# Altium integrated library microbuilder.IntLib: 530 symbols (part 2 of 7)
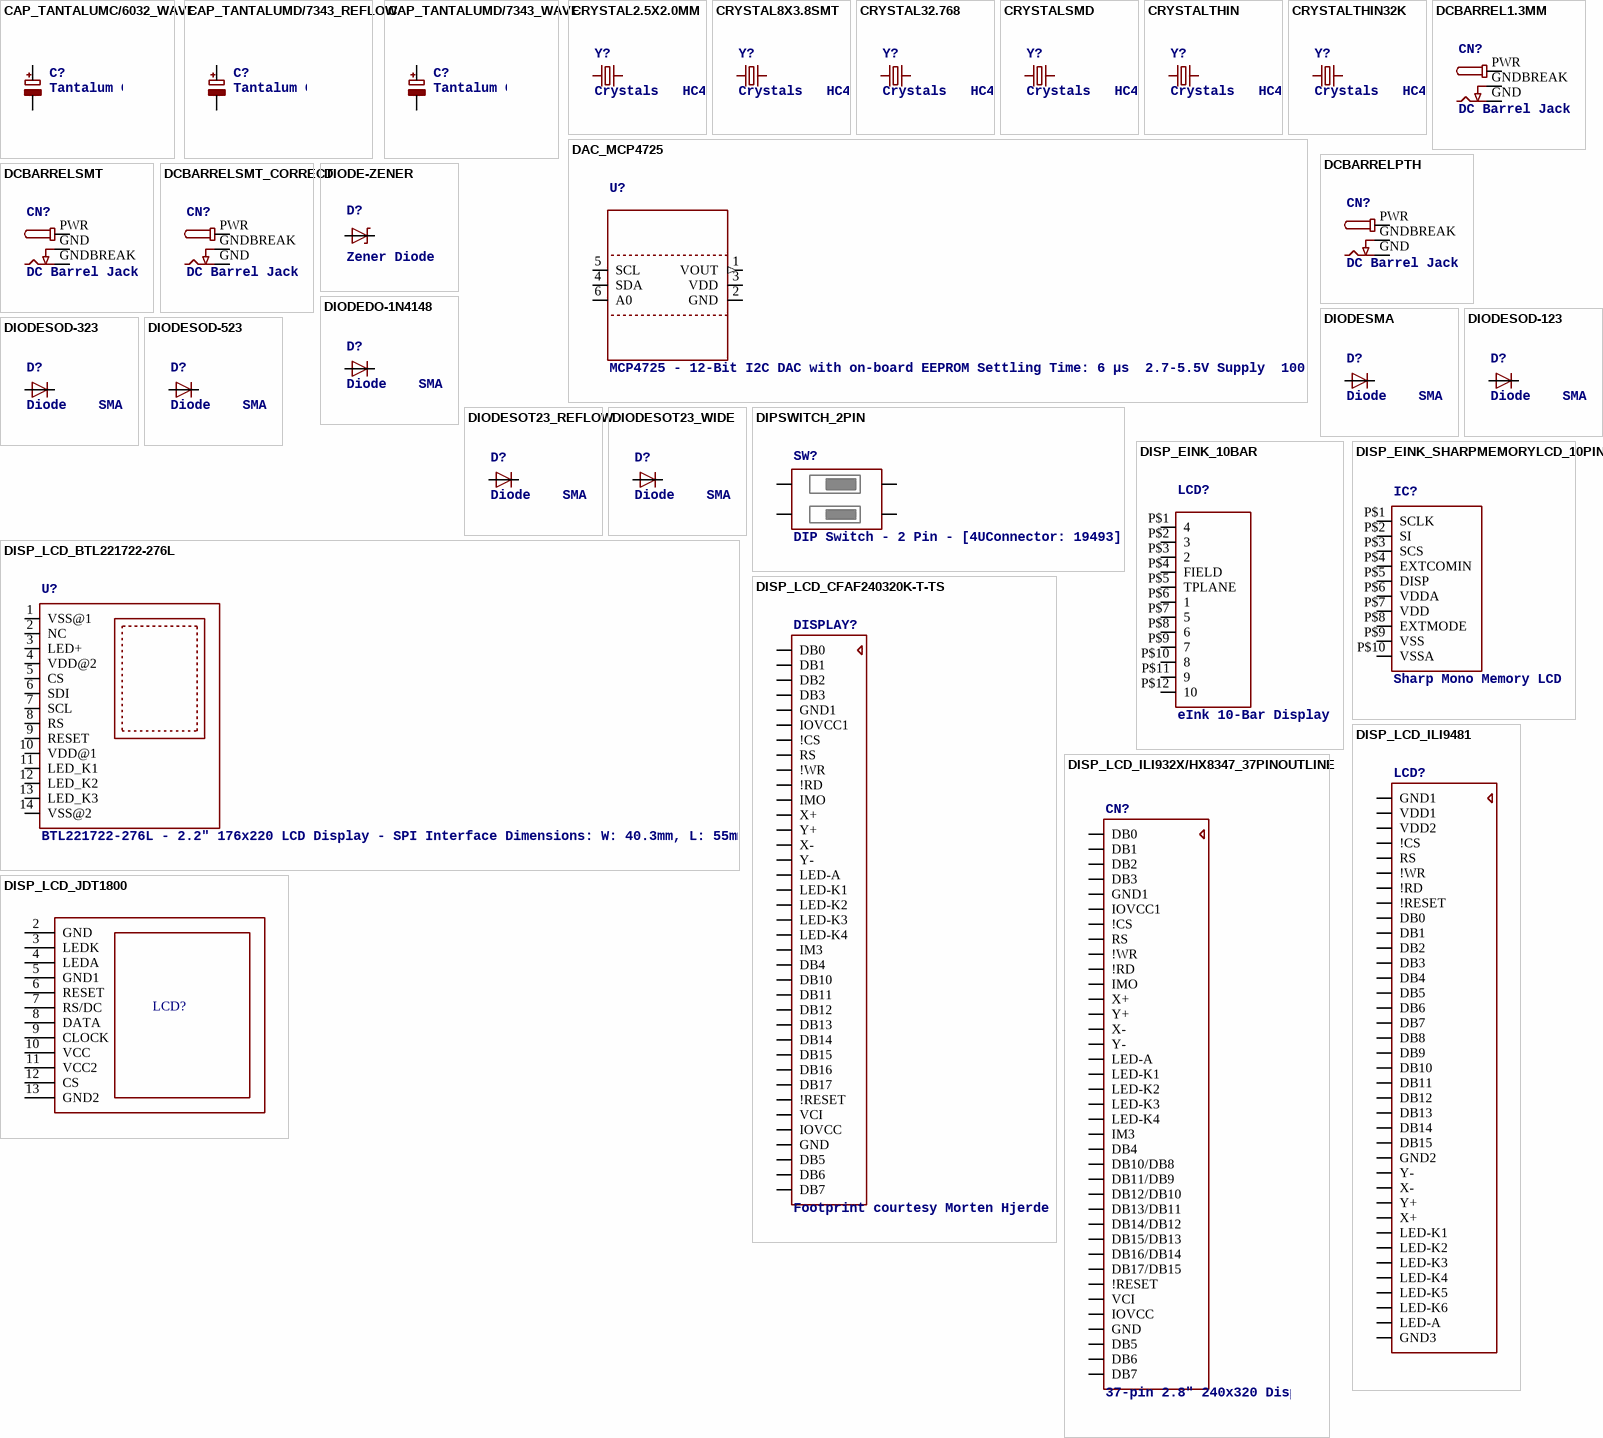
[diagram p53: symbols CAP_TANTALUMC/6032_WAVE to DISP_LCD_JDT1800]

## CAP_TANTALUMC/6032_WAVE
designator C?, comment Tantalum Capacitors   Wave footprints have larger pads and are meant to be used for hand soldering. Reflow footprints are optimised for solder paste and a reflow oven.EIA3216-18/A-[R/W] - Size A / 3216-18 / 1206 footprint  4.7µF 25V 10% Tantalum Capacitor  10µF 16V 10% Tantalum Capacitor [Digikey: 495-2236-2-ND]    EIA3528-21/B-[R/W] - Size B / 3528-21  47µF 10V 10% Tantalum Capactior [Digikey: 495-2216-1-ND]    EIA6032-28/C-[R/W] - Size C / 6032-28  10µF 35V 20% Tantalum Capacitor [Digikey: 495-2285-1-ND]  100µF 16V 10% Tantalum Capactior [Digikey: 399-5214-1-ND]
footprint EIA6032-28/C-W
pins: +, -

## CAP_TANTALUMD/7343_REFLOW
designator C?, comment Tantalum Capacitors   Wave footprints have larger pads and are meant to be used for hand soldering. Reflow footprints are optimised for solder paste and a reflow oven.EIA3216-18/A-[R/W] - Size A / 3216-18 / 1206 footprint  4.7µF 25V 10% Tantalum Capacitor  10µF 16V 10% Tantalum Capacitor [Digikey: 495-2236-2-ND]    EIA3528-21/B-[R/W] - Size B / 3528-21  47µF 10V 10% Tantalum Capactior [Digikey: 495-2216-1-ND]    EIA6032-28/C-[R/W] - Size C / 6032-28  10µF 35V 20% Tantalum Capacitor [Digikey: 495-2285-1-ND]  100µF 16V 10% Tantalum Capactior [Digikey: 399-5214-1-ND]
footprint EIA7343-31/D-R
pins: +, -

## CAP_TANTALUMD/7343_WAVE
designator C?, comment Tantalum Capacitors   Wave footprints have larger pads and are meant to be used for hand soldering. Reflow footprints are optimised for solder paste and a reflow oven.EIA3216-18/A-[R/W] - Size A / 3216-18 / 1206 footprint  4.7µF 25V 10% Tantalum Capacitor  10µF 16V 10% Tantalum Capacitor [Digikey: 495-2236-2-ND]    EIA3528-21/B-[R/W] - Size B / 3528-21  47µF 10V 10% Tantalum Capactior [Digikey: 495-2216-1-ND]    EIA6032-28/C-[R/W] - Size C / 6032-28  10µF 35V 20% Tantalum Capacitor [Digikey: 495-2285-1-ND]  100µF 16V 10% Tantalum Capactior [Digikey: 399-5214-1-ND]
footprint EIA7343-31/D-W
pins: +, -

## CRYSTAL2.5X2.0MM
designator Y?, comment Crystals   HC49UP - Surface Mount Crystal  4.0MHz 18pF +/-30ppm Surface Mount Crystal [Digikey: 535-9857-1-ND]  12.0 MHz Surface Mount Crystal [Digikey: 535-9869-6-ND]  25.0 MHz Surface Mount Crystal [Digikey: 535-9078-1-ND]       2.5 x 2.0mm - MEMs SMT Crystal  16.0 MHz 10pF 20ppm 2.5 x 2.0mm Crystal [Digikey -40-85°C: 535-10923-1-ND]       3.2 x 2.5mm - MEMs SMT Crystal  12.0 MHz 8pF 15ppm 3.2 x 2.5mm Crystal [Digikey: -10-70°C: 644-1047-1-ND -40-125°C: 644-1128-1-ND]  16.0 MHz 8pF 15ppm 3.2 x 2.5mm Crystal [Digikey: -10-70°C: 644-1049-1-ND -40-125°C: 644-1129-2-ND]  16.0 MHz 10pF 10ppm 3.2 x 2.5mm Crystal [Digikey: 644-1100-1-ND]  27.12 MHz 18pF 30ppm 3.2 x 2.5mm Crystal [Digikey: 887-1424-1-ND]  27.12MHz 10pF 10ppm 3.2 x 2.5mm Crystal [Digikey: 887-1329-1-ND]       4.9 x 1.8mm - MEMs SMT Crystal  32.768 KHz 12.5pF 20ppm 4.9 x 1.8mm Crystal [Digikey: SE2415CT-ND]       8.0 x 3.8mm - Surface Mount Crystal  32.768kHz 12.5pF 20ppm -40°C-85°C [Digikey: 535-9166-2-ND]       Cylinder 32.768KHz Cylinder Crystal (2x6mm body) [Ex. Digikey: 300-8341-2-ND]
footprint CRYSTAL_2.5X2
pins: 1, 3 2

## CRYSTAL8X3.8SMT
designator Y?, comment Crystals   HC49UP - Surface Mount Crystal  4.0MHz 18pF +/-30ppm Surface Mount Crystal [Digikey: 535-9857-1-ND]  12.0 MHz Surface Mount Crystal [Digikey: 535-9869-6-ND]  25.0 MHz Surface Mount Crystal [Digikey: 535-9078-1-ND]       2.5 x 2.0mm - MEMs SMT Crystal  16.0 MHz 10pF 20ppm 2.5 x 2.0mm Crystal [Digikey -40-85°C: 535-10923-1-ND]       3.2 x 2.5mm - MEMs SMT Crystal  12.0 MHz 8pF 15ppm 3.2 x 2.5mm Crystal [Digikey: -10-70°C: 644-1047-1-ND -40-125°C: 644-1128-1-ND]  16.0 MHz 8pF 15ppm 3.2 x 2.5mm Crystal [Digikey: -10-70°C: 644-1049-1-ND -40-125°C: 644-1129-2-ND]  16.0 MHz 10pF 10ppm 3.2 x 2.5mm Crystal [Digikey: 644-1100-1-ND]  27.12 MHz 18pF 30ppm 3.2 x 2.5mm Crystal [Digikey: 887-1424-1-ND]  27.12MHz 10pF 10ppm 3.2 x 2.5mm Crystal [Digikey: 887-1329-1-ND]       4.9 x 1.8mm - MEMs SMT Crystal  32.768 KHz 12.5pF 20ppm 4.9 x 1.8mm Crystal [Digikey: SE2415CT-ND]       8.0 x 3.8mm - Surface Mount Crystal  32.768kHz 12.5pF 20ppm -40°C-85°C [Digikey: 535-9166-2-ND]       Cylinder 32.768KHz Cylinder Crystal (2x6mm body) [Ex. Digikey: 300-8341-2-ND]
footprint CRYSTAL_8X3.8
pins: P$1 1, P$4 2

## CRYSTAL32.768
designator Y?, comment Crystals   HC49UP - Surface Mount Crystal  4.0MHz 18pF +/-30ppm Surface Mount Crystal [Digikey: 535-9857-1-ND]  12.0 MHz Surface Mount Crystal [Digikey: 535-9869-6-ND]  25.0 MHz Surface Mount Crystal [Digikey: 535-9078-1-ND]       2.5 x 2.0mm - MEMs SMT Crystal  16.0 MHz 10pF 20ppm 2.5 x 2.0mm Crystal [Digikey -40-85°C: 535-10923-1-ND]       3.2 x 2.5mm - MEMs SMT Crystal  12.0 MHz 8pF 15ppm 3.2 x 2.5mm Crystal [Digikey: -10-70°C: 644-1047-1-ND -40-125°C: 644-1128-1-ND]  16.0 MHz 8pF 15ppm 3.2 x 2.5mm Crystal [Digikey: -10-70°C: 644-1049-1-ND -40-125°C: 644-1129-2-ND]  16.0 MHz 10pF 10ppm 3.2 x 2.5mm Crystal [Digikey: 644-1100-1-ND]  27.12 MHz 18pF 30ppm 3.2 x 2.5mm Crystal [Digikey: 887-1424-1-ND]  27.12MHz 10pF 10ppm 3.2 x 2.5mm Crystal [Digikey: 887-1329-1-ND]       4.9 x 1.8mm - MEMs SMT Crystal  32.768 KHz 12.5pF 20ppm 4.9 x 1.8mm Crystal [Digikey: SE2415CT-ND]       8.0 x 3.8mm - Surface Mount Crystal  32.768kHz 12.5pF 20ppm -40°C-85°C [Digikey: 535-9166-2-ND]       Cylinder 32.768KHz Cylinder Crystal (2x6mm body) [Ex. Digikey: 300-8341-2-ND]
footprint CRYSTAL_CYL_2X6MM_SMT
pins: 1, 2

## CRYSTALSMD
designator Y?, comment Crystals   HC49UP - Surface Mount Crystal  4.0MHz 18pF +/-30ppm Surface Mount Crystal [Digikey: 535-9857-1-ND]  12.0 MHz Surface Mount Crystal [Digikey: 535-9869-6-ND]  25.0 MHz Surface Mount Crystal [Digikey: 535-9078-1-ND]       2.5 x 2.0mm - MEMs SMT Crystal  16.0 MHz 10pF 20ppm 2.5 x 2.0mm Crystal [Digikey -40-85°C: 535-10923-1-ND]       3.2 x 2.5mm - MEMs SMT Crystal  12.0 MHz 8pF 15ppm 3.2 x 2.5mm Crystal [Digikey: -10-70°C: 644-1047-1-ND -40-125°C: 644-1128-1-ND]  16.0 MHz 8pF 15ppm 3.2 x 2.5mm Crystal [Digikey: -10-70°C: 644-1049-1-ND -40-125°C: 644-1129-2-ND]  16.0 MHz 10pF 10ppm 3.2 x 2.5mm Crystal [Digikey: 644-1100-1-ND]  27.12 MHz 18pF 30ppm 3.2 x 2.5mm Crystal [Digikey: 887-1424-1-ND]  27.12MHz 10pF 10ppm 3.2 x 2.5mm Crystal [Digikey: 887-1329-1-ND]       4.9 x 1.8mm - MEMs SMT Crystal  32.768 KHz 12.5pF 20ppm 4.9 x 1.8mm Crystal [Digikey: SE2415CT-ND]       8.0 x 3.8mm - Surface Mount Crystal  32.768kHz 12.5pF 20ppm -40°C-85°C [Digikey: 535-9166-2-ND]       Cylinder 32.768KHz Cylinder Crystal (2x6mm body) [Ex. Digikey: 300-8341-2-ND]
footprint HC49UP
pins: 1, 2

## CRYSTALTHIN
designator Y?, comment Crystals   HC49UP - Surface Mount Crystal  4.0MHz 18pF +/-30ppm Surface Mount Crystal [Digikey: 535-9857-1-ND]  12.0 MHz Surface Mount Crystal [Digikey: 535-9869-6-ND]  25.0 MHz Surface Mount Crystal [Digikey: 535-9078-1-ND]       2.5 x 2.0mm - MEMs SMT Crystal  16.0 MHz 10pF 20ppm 2.5 x 2.0mm Crystal [Digikey -40-85°C: 535-10923-1-ND]       3.2 x 2.5mm - MEMs SMT Crystal  12.0 MHz 8pF 15ppm 3.2 x 2.5mm Crystal [Digikey: -10-70°C: 644-1047-1-ND -40-125°C: 644-1128-1-ND]  16.0 MHz 8pF 15ppm 3.2 x 2.5mm Crystal [Digikey: -10-70°C: 644-1049-1-ND -40-125°C: 644-1129-2-ND]  16.0 MHz 10pF 10ppm 3.2 x 2.5mm Crystal [Digikey: 644-1100-1-ND]  27.12 MHz 18pF 30ppm 3.2 x 2.5mm Crystal [Digikey: 887-1424-1-ND]  27.12MHz 10pF 10ppm 3.2 x 2.5mm Crystal [Digikey: 887-1329-1-ND]       4.9 x 1.8mm - MEMs SMT Crystal  32.768 KHz 12.5pF 20ppm 4.9 x 1.8mm Crystal [Digikey: SE2415CT-ND]       8.0 x 3.8mm - Surface Mount Crystal  32.768kHz 12.5pF 20ppm -40°C-85°C [Digikey: 535-9166-2-ND]       Cylinder 32.768KHz Cylinder Crystal (2x6mm body) [Ex. Digikey: 300-8341-2-ND]
footprint CRYSTAL_3.2X2.5
pins: 1, 2

## CRYSTALTHIN32K
designator Y?, comment Crystals   HC49UP - Surface Mount Crystal  4.0MHz 18pF +/-30ppm Surface Mount Crystal [Digikey: 535-9857-1-ND]  12.0 MHz Surface Mount Crystal [Digikey: 535-9869-6-ND]  25.0 MHz Surface Mount Crystal [Digikey: 535-9078-1-ND]       2.5 x 2.0mm - MEMs SMT Crystal  16.0 MHz 10pF 20ppm 2.5 x 2.0mm Crystal [Digikey -40-85°C: 535-10923-1-ND]       3.2 x 2.5mm - MEMs SMT Crystal  12.0 MHz 8pF 15ppm 3.2 x 2.5mm Crystal [Digikey: -10-70°C: 644-1047-1-ND -40-125°C: 644-1128-1-ND]  16.0 MHz 8pF 15ppm 3.2 x 2.5mm Crystal [Digikey: -10-70°C: 644-1049-1-ND -40-125°C: 644-1129-2-ND]  16.0 MHz 10pF 10ppm 3.2 x 2.5mm Crystal [Digikey: 644-1100-1-ND]  27.12 MHz 18pF 30ppm 3.2 x 2.5mm Crystal [Digikey: 887-1424-1-ND]  27.12MHz 10pF 10ppm 3.2 x 2.5mm Crystal [Digikey: 887-1329-1-ND]       4.9 x 1.8mm - MEMs SMT Crystal  32.768 KHz 12.5pF 20ppm 4.9 x 1.8mm Crystal [Digikey: SE2415CT-ND]       8.0 x 3.8mm - Surface Mount Crystal  32.768kHz 12.5pF 20ppm -40°C-85°C [Digikey: 535-9166-2-ND]       Cylinder 32.768KHz Cylinder Crystal (2x6mm body) [Ex. Digikey: 300-8341-2-ND]
footprint CRYSTAL_4.9X1.8
pins: 1, 2

## DAC_MCP4725
designator U?, comment MCP4725 - 12-Bit I2C DAC with on-board EEPROM Settling Time: 6 µs  2.7-5.5V Supply  100kHz, 400kHz, 3.4 Mbps I²C       EEPROM can be used to store a specific output voltage which will be set coming out of reset   I²C Address: 1100 A2 A1 A0   A0 is set via the A0 pin, A2 and A1 are hard-wired on the chip depending on the model chosen:      Part Number	A2 A1	Code	     MCP4725A0T-E/CH	  0 0	  AJNN	     MCP4725A1T-E/CH	  0 1	  APNN	     MCP4725A2T-E/CH	  1 0	  AQNN	     MCP4725A3T-E/CH	  1 1	  ARNN
footprint SOT23-6
pins: 1 VOUT (out), 2 GND (power), 3 VDD (power), 4 SDA, 5 SCL, 6 A0

## DCBARREL1.3MM
designator CN?, comment DC Barrel Jack   DCJACK_1.3MM_PTH - Through Hole 1.3mm Jack (4UConnector: 05536)   DCJACK_2MM_PTH - Through Hole 2.0/2.1 Jack (4UConnector: 05537)   DCJACK_2MM_SMT - SMT 2.0/2.1mm Jack(4UConnector: 03267)
footprint DCJACK_1.3MM_PTH
pins: GND (power), GNDBREAK (power), PWR (power)

## DCBARRELPTH
designator CN?, comment DC Barrel Jack   DCJACK_1.3MM_PTH - Through Hole 1.3mm Jack (4UConnector: 05536)   DCJACK_2MM_PTH - Through Hole 2.0/2.1 Jack (4UConnector: 05537)   DCJACK_2MM_SMT - SMT 2.0/2.1mm Jack(4UConnector: 03267)
footprint DCJACK_2MM_PTH
pins: GND (power), GNDBREAK (power), PWR (power)

## DCBARRELSMT
designator CN?, comment DC Barrel Jack   DCJACK_1.3MM_PTH - Through Hole 1.3mm Jack (4UConnector: 05536)   DCJACK_2MM_PTH - Through Hole 2.0/2.1 Jack (4UConnector: 05537)   DCJACK_2MM_SMT - SMT 2.0/2.1mm Jack(4UConnector: 03267)
footprint DCJACK_2MM_SMT
pins: GND GNDBREAK (power), GNDBREAK GND (power), PWR (power)

## DCBARRELSMT_CORRECT
designator CN?, comment DC Barrel Jack   DCJACK_1.3MM_PTH - Through Hole 1.3mm Jack (4UConnector: 05536)   DCJACK_2MM_PTH - Through Hole 2.0/2.1 Jack (4UConnector: 05537)   DCJACK_2MM_SMT - SMT 2.0/2.1mm Jack(4UConnector: 03267)
footprint DCJACK_2MM_SMT
pins: GND (power), GNDBREAK (power), PWR (power)

## DIODE-ZENER
designator D?, comment Zener Diode   SMA: 30V 1W Zener Diode, 1.2Vf - Digikey: SMAZ30-FDICT-ND
footprint SMADIODE
pins: A, C

## DIODEDO-1N4148
designator D?, comment Diode    SMA      Model	  Volts	  Amps	  Type	  Vf	  Vr	  Digikey #	  Notes	     SSA34-E3	  40V	  3A	  Schottky	  480mV @ 3A	  200uA @ 40V	  SSA34-E3/61TGITR-ND	  	     CDBA120-G	  20V	  1A	  Schottky	  500mV @ 1A	  500uA @ 20V	  641-1014-6-ND	  REEL	     MBRA210	  10V	  2A	  Schottky	  350mV @ 2A	  700uA @ 10V	  MBRA210LT3	  	 SOD-123      Model	  Volts	  Amps	  Type	  Vf	  Vr	  Order #	  Notes	     BAT54T1G	  30V	  200mA	  Schottky	  800mV @ 200mA	  2uA @ 25V	  BAT54T1GOSTR-ND	  	     B0530W	  30V	  500mA	  Schottky	  430mV @ 500mA	  130uA @ 30V	  B0530W-FDICT-ND	  REEL	     MBR120	  1A	  20V	  Schottky	  340mV @ 1A	  	  MBR120VLSFT1GOSCT-ND	  	 SOD-323      Model	  Volts	  Amps	  Type	  Vf	  Vr	  Order #	  Notes	     PMEG2005EJ	  20V	  500mA	  Schottky	  355mV @ 500mA	  	  568-4110-1-ND	  	     ZLLS410	  10V	  570mA	  Schottky	  380mV @ 570mA	  	  ZLLS410CT-ND	  	     1N4148WS	  75V	  150mA	  Silicon/Simple	  1V	  	  1N4148WSFSCT-ND	  REEL	 SOD-523      Model	  Volts	  Amps	  Type	  Vf	  Vr	  Order #	  Notes	     BAT54XV2	  30V	  200mA	  Schottky	  0.8V @ 100mA	  	  BAT54XV2CT-ND	  	     TB751S	  30V	  30mA	  Schottky	  	  	  RB751S-40TE61CT-ND	  	 SOT23-R/W (R = Solder Paste/Reflow Ovens, W = Hand-Soldering)       Model	  Volts	  Amps	  Type	  Vf	  Vr	  Order #	  Notes	     BAT54FILM	  40V	  300mA	  Schottky	  	  	  497-7162-1-ND
footprint DO-1N4148
pins: A, C

## DIODESMA
designator D?, comment Diode    SMA      Model	  Volts	  Amps	  Type	  Vf	  Vr	  Digikey #	  Notes	     SSA34-E3	  40V	  3A	  Schottky	  480mV @ 3A	  200uA @ 40V	  SSA34-E3/61TGITR-ND	  	     CDBA120-G	  20V	  1A	  Schottky	  500mV @ 1A	  500uA @ 20V	  641-1014-6-ND	  REEL	     MBRA210	  10V	  2A	  Schottky	  350mV @ 2A	  700uA @ 10V	  MBRA210LT3	  	 SOD-123      Model	  Volts	  Amps	  Type	  Vf	  Vr	  Order #	  Notes	     BAT54T1G	  30V	  200mA	  Schottky	  800mV @ 200mA	  2uA @ 25V	  BAT54T1GOSTR-ND	  	     B0530W	  30V	  500mA	  Schottky	  430mV @ 500mA	  130uA @ 30V	  B0530W-FDICT-ND	  REEL	     MBR120	  1A	  20V	  Schottky	  340mV @ 1A	  	  MBR120VLSFT1GOSCT-ND	  	 SOD-323      Model	  Volts	  Amps	  Type	  Vf	  Vr	  Order #	  Notes	     PMEG2005EJ	  20V	  500mA	  Schottky	  355mV @ 500mA	  	  568-4110-1-ND	  	     ZLLS410	  10V	  570mA	  Schottky	  380mV @ 570mA	  	  ZLLS410CT-ND	  	     1N4148WS	  75V	  150mA	  Silicon/Simple	  1V	  	  1N4148WSFSCT-ND	  REEL	 SOD-523      Model	  Volts	  Amps	  Type	  Vf	  Vr	  Order #	  Notes	     BAT54XV2	  30V	  200mA	  Schottky	  0.8V @ 100mA	  	  BAT54XV2CT-ND	  	     TB751S	  30V	  30mA	  Schottky	  	  	  RB751S-40TE61CT-ND	  	 SOT23-R/W (R = Solder Paste/Reflow Ovens, W = Hand-Soldering)       Model	  Volts	  Amps	  Type	  Vf	  Vr	  Order #	  Notes	     BAT54FILM	  40V	  300mA	  Schottky	  	  	  497-7162-1-ND
footprint SMADIODE
pins: A, C

## DIODESOD-123
designator D?, comment Diode    SMA      Model	  Volts	  Amps	  Type	  Vf	  Vr	  Digikey #	  Notes	     SSA34-E3	  40V	  3A	  Schottky	  480mV @ 3A	  200uA @ 40V	  SSA34-E3/61TGITR-ND	  	     CDBA120-G	  20V	  1A	  Schottky	  500mV @ 1A	  500uA @ 20V	  641-1014-6-ND	  REEL	     MBRA210	  10V	  2A	  Schottky	  350mV @ 2A	  700uA @ 10V	  MBRA210LT3	  	 SOD-123      Model	  Volts	  Amps	  Type	  Vf	  Vr	  Order #	  Notes	     BAT54T1G	  30V	  200mA	  Schottky	  800mV @ 200mA	  2uA @ 25V	  BAT54T1GOSTR-ND	  	     B0530W	  30V	  500mA	  Schottky	  430mV @ 500mA	  130uA @ 30V	  B0530W-FDICT-ND	  REEL	     MBR120	  1A	  20V	  Schottky	  340mV @ 1A	  	  MBR120VLSFT1GOSCT-ND	  	 SOD-323      Model	  Volts	  Amps	  Type	  Vf	  Vr	  Order #	  Notes	     PMEG2005EJ	  20V	  500mA	  Schottky	  355mV @ 500mA	  	  568-4110-1-ND	  	     ZLLS410	  10V	  570mA	  Schottky	  380mV @ 570mA	  	  ZLLS410CT-ND	  	     1N4148WS	  75V	  150mA	  Silicon/Simple	  1V	  	  1N4148WSFSCT-ND	  REEL	 SOD-523      Model	  Volts	  Amps	  Type	  Vf	  Vr	  Order #	  Notes	     BAT54XV2	  30V	  200mA	  Schottky	  0.8V @ 100mA	  	  BAT54XV2CT-ND	  	     TB751S	  30V	  30mA	  Schottky	  	  	  RB751S-40TE61CT-ND	  	 SOT23-R/W (R = Solder Paste/Reflow Ovens, W = Hand-Soldering)       Model	  Volts	  Amps	  Type	  Vf	  Vr	  Order #	  Notes	     BAT54FILM	  40V	  300mA	  Schottky	  	  	  497-7162-1-ND
footprint SOD-123
pins: A, C

## DIODESOD-323
designator D?, comment Diode    SMA      Model	  Volts	  Amps	  Type	  Vf	  Vr	  Digikey #	  Notes	     SSA34-E3	  40V	  3A	  Schottky	  480mV @ 3A	  200uA @ 40V	  SSA34-E3/61TGITR-ND	  	     CDBA120-G	  20V	  1A	  Schottky	  500mV @ 1A	  500uA @ 20V	  641-1014-6-ND	  REEL	     MBRA210	  10V	  2A	  Schottky	  350mV @ 2A	  700uA @ 10V	  MBRA210LT3	  	 SOD-123      Model	  Volts	  Amps	  Type	  Vf	  Vr	  Order #	  Notes	     BAT54T1G	  30V	  200mA	  Schottky	  800mV @ 200mA	  2uA @ 25V	  BAT54T1GOSTR-ND	  	     B0530W	  30V	  500mA	  Schottky	  430mV @ 500mA	  130uA @ 30V	  B0530W-FDICT-ND	  REEL	     MBR120	  1A	  20V	  Schottky	  340mV @ 1A	  	  MBR120VLSFT1GOSCT-ND	  	 SOD-323      Model	  Volts	  Amps	  Type	  Vf	  Vr	  Order #	  Notes	     PMEG2005EJ	  20V	  500mA	  Schottky	  355mV @ 500mA	  	  568-4110-1-ND	  	     ZLLS410	  10V	  570mA	  Schottky	  380mV @ 570mA	  	  ZLLS410CT-ND	  	     1N4148WS	  75V	  150mA	  Silicon/Simple	  1V	  	  1N4148WSFSCT-ND	  REEL	 SOD-523      Model	  Volts	  Amps	  Type	  Vf	  Vr	  Order #	  Notes	     BAT54XV2	  30V	  200mA	  Schottky	  0.8V @ 100mA	  	  BAT54XV2CT-ND	  	     TB751S	  30V	  30mA	  Schottky	  	  	  RB751S-40TE61CT-ND	  	 SOT23-R/W (R = Solder Paste/Reflow Ovens, W = Hand-Soldering)       Model	  Volts	  Amps	  Type	  Vf	  Vr	  Order #	  Notes	     BAT54FILM	  40V	  300mA	  Schottky	  	  	  497-7162-1-ND
footprint SOD-323
pins: A, C

## DIODESOD-523
designator D?, comment Diode    SMA      Model	  Volts	  Amps	  Type	  Vf	  Vr	  Digikey #	  Notes	     SSA34-E3	  40V	  3A	  Schottky	  480mV @ 3A	  200uA @ 40V	  SSA34-E3/61TGITR-ND	  	     CDBA120-G	  20V	  1A	  Schottky	  500mV @ 1A	  500uA @ 20V	  641-1014-6-ND	  REEL	     MBRA210	  10V	  2A	  Schottky	  350mV @ 2A	  700uA @ 10V	  MBRA210LT3	  	 SOD-123      Model	  Volts	  Amps	  Type	  Vf	  Vr	  Order #	  Notes	     BAT54T1G	  30V	  200mA	  Schottky	  800mV @ 200mA	  2uA @ 25V	  BAT54T1GOSTR-ND	  	     B0530W	  30V	  500mA	  Schottky	  430mV @ 500mA	  130uA @ 30V	  B0530W-FDICT-ND	  REEL	     MBR120	  1A	  20V	  Schottky	  340mV @ 1A	  	  MBR120VLSFT1GOSCT-ND	  	 SOD-323      Model	  Volts	  Amps	  Type	  Vf	  Vr	  Order #	  Notes	     PMEG2005EJ	  20V	  500mA	  Schottky	  355mV @ 500mA	  	  568-4110-1-ND	  	     ZLLS410	  10V	  570mA	  Schottky	  380mV @ 570mA	  	  ZLLS410CT-ND	  	     1N4148WS	  75V	  150mA	  Silicon/Simple	  1V	  	  1N4148WSFSCT-ND	  REEL	 SOD-523      Model	  Volts	  Amps	  Type	  Vf	  Vr	  Order #	  Notes	     BAT54XV2	  30V	  200mA	  Schottky	  0.8V @ 100mA	  	  BAT54XV2CT-ND	  	     TB751S	  30V	  30mA	  Schottky	  	  	  RB751S-40TE61CT-ND	  	 SOT23-R/W (R = Solder Paste/Reflow Ovens, W = Hand-Soldering)       Model	  Volts	  Amps	  Type	  Vf	  Vr	  Order #	  Notes	     BAT54FILM	  40V	  300mA	  Schottky	  	  	  497-7162-1-ND
footprint SOD-523
pins: A, K C

## DIODESOT23_REFLOW
designator D?, comment Diode    SMA      Model	  Volts	  Amps	  Type	  Vf	  Vr	  Digikey #	  Notes	     SSA34-E3	  40V	  3A	  Schottky	  480mV @ 3A	  200uA @ 40V	  SSA34-E3/61TGITR-ND	  	     CDBA120-G	  20V	  1A	  Schottky	  500mV @ 1A	  500uA @ 20V	  641-1014-6-ND	  REEL	     MBRA210	  10V	  2A	  Schottky	  350mV @ 2A	  700uA @ 10V	  MBRA210LT3	  	 SOD-123      Model	  Volts	  Amps	  Type	  Vf	  Vr	  Order #	  Notes	     BAT54T1G	  30V	  200mA	  Schottky	  800mV @ 200mA	  2uA @ 25V	  BAT54T1GOSTR-ND	  	     B0530W	  30V	  500mA	  Schottky	  430mV @ 500mA	  130uA @ 30V	  B0530W-FDICT-ND	  REEL	     MBR120	  1A	  20V	  Schottky	  340mV @ 1A	  	  MBR120VLSFT1GOSCT-ND	  	 SOD-323      Model	  Volts	  Amps	  Type	  Vf	  Vr	  Order #	  Notes	     PMEG2005EJ	  20V	  500mA	  Schottky	  355mV @ 500mA	  	  568-4110-1-ND	  	     ZLLS410	  10V	  570mA	  Schottky	  380mV @ 570mA	  	  ZLLS410CT-ND	  	     1N4148WS	  75V	  150mA	  Silicon/Simple	  1V	  	  1N4148WSFSCT-ND	  REEL	 SOD-523      Model	  Volts	  Amps	  Type	  Vf	  Vr	  Order #	  Notes	     BAT54XV2	  30V	  200mA	  Schottky	  0.8V @ 100mA	  	  BAT54XV2CT-ND	  	     TB751S	  30V	  30mA	  Schottky	  	  	  RB751S-40TE61CT-ND	  	 SOT23-R/W (R = Solder Paste/Reflow Ovens, W = Hand-Soldering)       Model	  Volts	  Amps	  Type	  Vf	  Vr	  Order #	  Notes	     BAT54FILM	  40V	  300mA	  Schottky	  	  	  497-7162-1-ND
footprint SOT23-R
pins: 1 A, 3 C

## DIODESOT23_WIDE
designator D?, comment Diode    SMA      Model	  Volts	  Amps	  Type	  Vf	  Vr	  Digikey #	  Notes	     SSA34-E3	  40V	  3A	  Schottky	  480mV @ 3A	  200uA @ 40V	  SSA34-E3/61TGITR-ND	  	     CDBA120-G	  20V	  1A	  Schottky	  500mV @ 1A	  500uA @ 20V	  641-1014-6-ND	  REEL	     MBRA210	  10V	  2A	  Schottky	  350mV @ 2A	  700uA @ 10V	  MBRA210LT3	  	 SOD-123      Model	  Volts	  Amps	  Type	  Vf	  Vr	  Order #	  Notes	     BAT54T1G	  30V	  200mA	  Schottky	  800mV @ 200mA	  2uA @ 25V	  BAT54T1GOSTR-ND	  	     B0530W	  30V	  500mA	  Schottky	  430mV @ 500mA	  130uA @ 30V	  B0530W-FDICT-ND	  REEL	     MBR120	  1A	  20V	  Schottky	  340mV @ 1A	  	  MBR120VLSFT1GOSCT-ND	  	 SOD-323      Model	  Volts	  Amps	  Type	  Vf	  Vr	  Order #	  Notes	     PMEG2005EJ	  20V	  500mA	  Schottky	  355mV @ 500mA	  	  568-4110-1-ND	  	     ZLLS410	  10V	  570mA	  Schottky	  380mV @ 570mA	  	  ZLLS410CT-ND	  	     1N4148WS	  75V	  150mA	  Silicon/Simple	  1V	  	  1N4148WSFSCT-ND	  REEL	 SOD-523      Model	  Volts	  Amps	  Type	  Vf	  Vr	  Order #	  Notes	     BAT54XV2	  30V	  200mA	  Schottky	  0.8V @ 100mA	  	  BAT54XV2CT-ND	  	     TB751S	  30V	  30mA	  Schottky	  	  	  RB751S-40TE61CT-ND	  	 SOT23-R/W (R = Solder Paste/Reflow Ovens, W = Hand-Soldering)       Model	  Volts	  Amps	  Type	  Vf	  Vr	  Order #	  Notes	     BAT54FILM	  40V	  300mA	  Schottky	  	  	  497-7162-1-ND
footprint SOT23-WIDE
pins: 1 A, 3 C

## DIPSWITCH_2PIN
designator SW?, comment DIP Switch - 2 Pin - [4UConnector: 19493]
footprint DIPSWITCH_2PIN
pins: 1A, 1B, 2A, 2B

## DISP_EINK_10BAR
designator LCD?, comment eInk 10-Bar Display
footprint EINK_10BAR
pins: P$1 4, P$2 3, P$3 2, P$4 FIELD, P$5 TPLANE, P$6 1, P$7 5, P$8 6, P$9 7, P$10 8, P$11 9, P$12 10

## DISP_EINK_SHARPMEMORYLCD_10PIN
designator IC?, comment Sharp Mono Memory LCD   LS013B4DN02 - 1.35" 96x96 Pixels   LS027B7DH01 - 2.7" 400x240 Pixels
footprint FPC_10PIN_52892-1095
pins: P$1 SCLK, P$2 SI, P$3 SCS, P$4 EXTCOMIN, P$5 DISP, P$6 VDDA (power), P$7 VDD (power), P$8 EXTMODE, P$9 VSS (power), P$10 VSSA (power)

## DISP_LCD_BTL221722-276L
designator U?, comment BTL221722-276L - 2.2" 176x220 LCD Display - SPI Interface Dimensions: W: 40.3mm, L: 55mm, H: 2.35mm  Logic: 1.8-3.3V  VDD: 2.8-3.3V  LEDs: 3*20mA  LED Vf: ~3.3V
footprint BTL221722-276L
pins: 1 VSS@1 (power), 2 NC, 3 LED+ (power), 4 VDD@2 (power), 5 CS, 6 SDI, 7 SCL, 8 RS, 9 RESET, 10 VDD@1 (power), 11 LED_K1 (power), 12 LED_K2 (power), 13 LED_K3 (power), 14 VSS@2 (power)

## DISP_LCD_CFAF240320K-T-TS
designator DISPLAY?, comment Footprint courtesy Morten Hjerde
footprint CFAF240320K-T-TS
pins: P$1 DB0, P$2 DB1, P$3 DB2, P$4 DB3, P$5 GND1 (power), P$6 IOVCC1 (power), P$7 !CS, P$8 RS, P$9 !WR, P$10 !RD, P$11 IMO, P$12 X+, P$13 Y+, P$14 X-, P$15 Y-, P$16 LED-A, P$17 LED-K1, P$18 LED-K2, P$19 LED-K3, P$20 LED-K4, P$21 IM3, P$22 DB4, P$23 DB10, P$24 DB11, P$25 DB12, P$26 DB13, P$27 DB14, P$28 DB15, P$29 DB16, P$30 DB17, P$31 !RESET, P$32 VCI (power), P$33 IOVCC (power), P$34 GND (power), P$35 DB5, P$36 DB6, P$37 DB7

## DISP_LCD_ILI932X/HX8347_37PINOUTLINE
designator CN?, comment 37-pin 2.8" 240x320 Displays based on ILI9325/ILI9328/HX8347 Controllers   Make sure to double-check the footprint against any LCD since there are dozens of varieties, but this footprint uses a relatively common 37-pin layout for ILI9325, ILI9328 or HX9347 240x320 LCD displays.
footprint ILI9325_28INCH_TS_OUTLINE
pins: 1 DB0, 2 DB1, 3 DB2, 4 DB3, 5 GND1 (power), 6 IOVCC1 (power), 7 !CS, 8 RS, 9 !WR, 10 !RD, 11 IMO, 12 X+, 13 Y+, 14 X-, 15 Y-, 16 LED-A, 17 LED-K1, 18 LED-K2, 19 LED-K3, 20 LED-K4, 21 IM3, 22 DB4, 23 DB10/DB8, 24 DB11/DB9, 25 DB12/DB10, 26 DB13/DB11, 27 DB14/DB12, 28 DB15/DB13, 29 DB16/DB14, 30 DB17/DB15, 31 !RESET, 32 VCI (power), 33 IOVCC (power), 34 GND (power), 35 DB5, 36 DB6, 37 DB7

## DISP_LCD_ILI9481
designator LCD?
footprint ILI9481_35INCH_OUTLINE
pins: 1 GND1, 2 VDD1, 3 VDD2, 4 !CS, 5 RS (power), 6 !WR (power), 7 !RD, 8 !RESET, 9 DB0, 10 DB1, 11 DB2, 12 DB3, 13 DB4, 14 DB5, 15 DB6, 16 DB7, 17 DB8, 18 DB9, 19 DB10, 20 DB11, 21 DB12, 22 DB13, 23 DB14, 24 DB15, 25 GND2, 26 Y-, 27 X-, 28 Y+, 29 X+, 30 LED-K1, 31 LED-K2, 32 LED-K3 (power), 33 LED-K4 (power), 34 LED-K5 (power), 35 LED-K6, 36 LED-A, 37 GND3

## DISP_LCD_JDT1800
designator LCD?
footprint JD-T1800
pins: 2 GND (power), 3 LEDK, 4 LEDA, 5 GND1 (power), 6 RESET, 7 RS/DC, 8 DATA, 9 CLOCK, 10 VCC (power), 11 VCC2 (power), 12 CS, 13 GND2 (power)

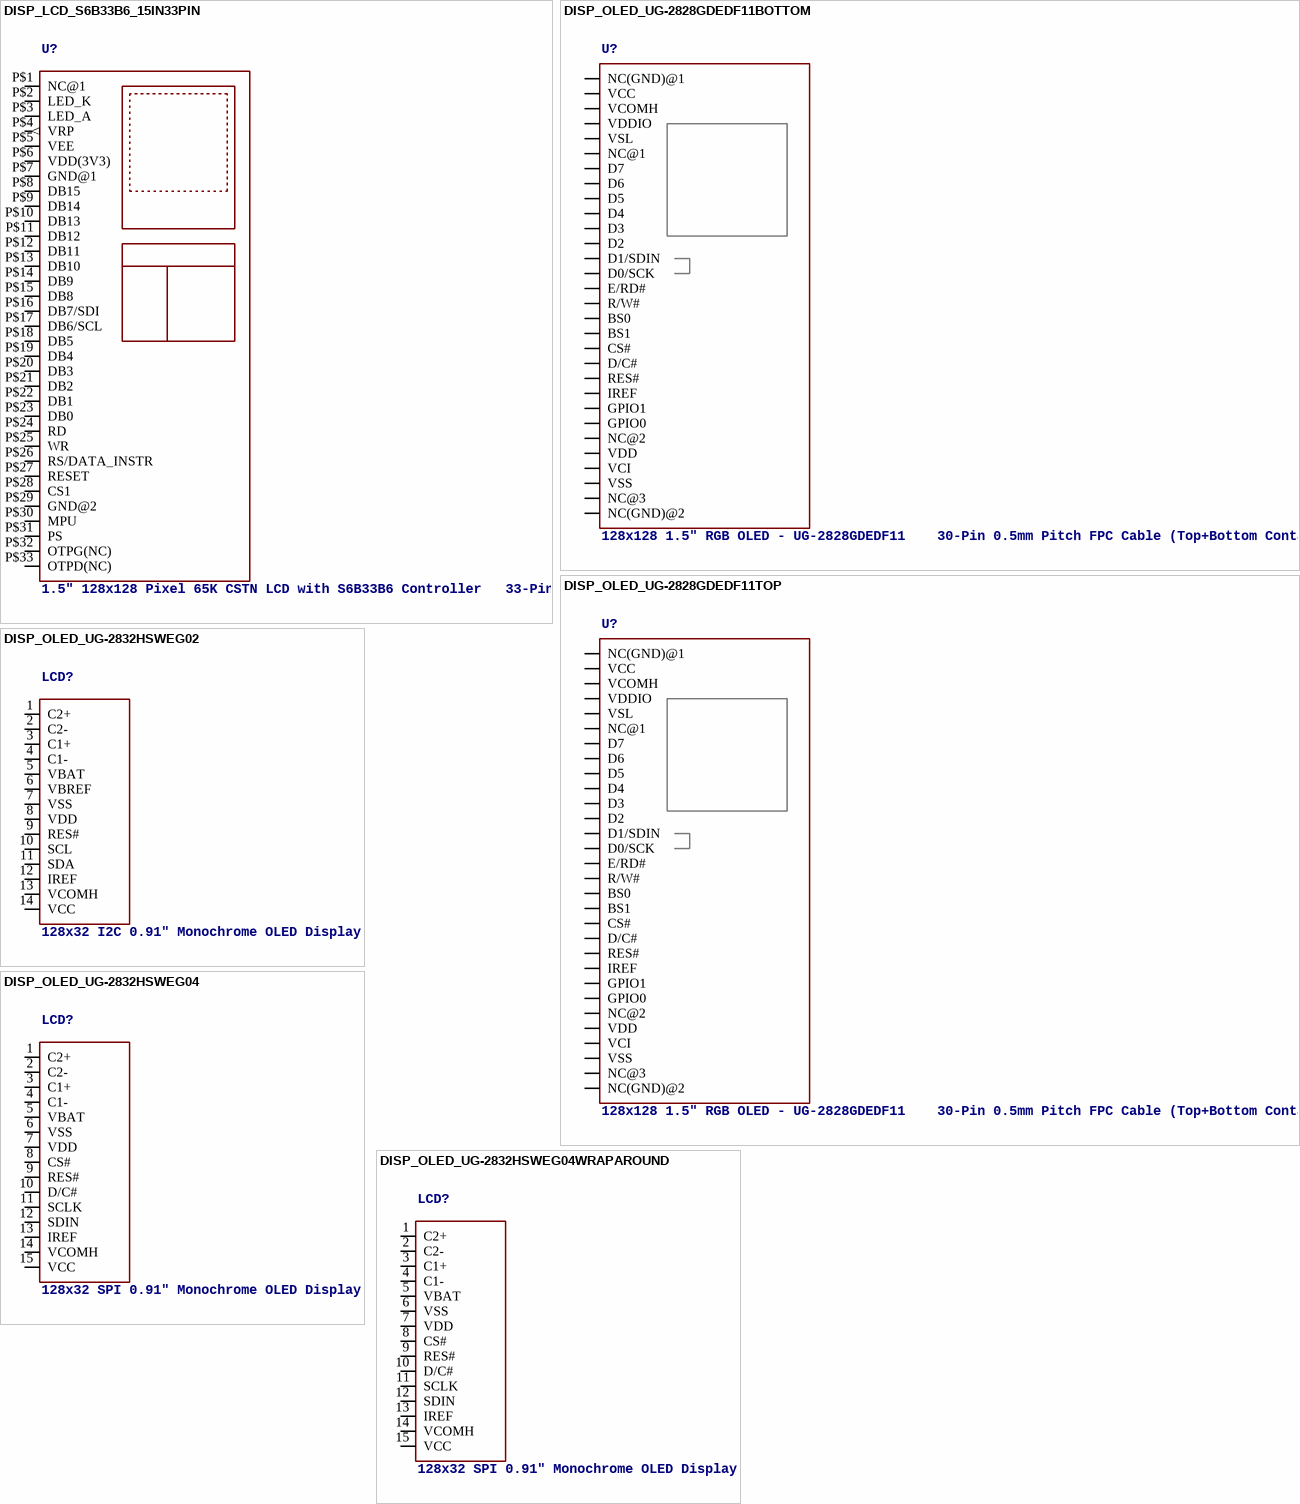
[diagram p8: symbols DISP_LCD_S6B33B6_15IN33PIN to DISP_OLED_UG-2832HSWEG04WRAPAROUND]

## DISP_LCD_S6B33B6_15IN33PIN
designator U?, comment 1.5" 128x128 Pixel 65K CSTN LCD with S6B33B6 Controller   33-Pins
footprint S6B33B6_1.5IN_LCD
pins: P$1 NC@1, P$2 LED_K, P$3 LED_A, P$4 VRP (out), P$5 VEE, P$6 VDD(3V3) (power), P$7 GND@1 (power), P$8 DB15, P$9 DB14, P$10 DB13, P$11 DB12, P$12 DB11, P$13 DB10, P$14 DB9, P$15 DB8, P$16 DB7/SDI, P$17 DB6/SCL, P$18 DB5, P$19 DB4, P$20 DB3, P$21 DB2, P$22 DB1, P$23 DB0, P$24 RD, P$25 WR, P$26 RS/DATA_INSTR, P$27 RESET, P$28 CS1, P$29 GND@2 (power), P$30 MPU, P$31 PS, P$32 OTPG(NC), P$33 OTPD(NC)

## DISP_OLED_UG-2828GDEDF11BOTTOM
designator U?, comment 128x128 1.5" RGB OLED - UG-2828GDEDF11    30-Pin 0.5mm Pitch FPC Cable (Top+Bottom Contacts) - OMRON XF2M-3015-1A (Digikey: OR723TR-ND)   This FPC connector has contacts on the top and bottom, but the appropriate pin needs to be selected depending on whether the OLED will be inserted right-side up (use the TOP pinout) or upside-down (use the BOTTOM pinout).
footprint FPC_XF2M-3015-1A
pins: P$1 NC(GND)@1, P$2 VCC (power), P$3 VCOMH (power), P$4 VDDIO (power), P$5 VSL, P$6 NC@1, P$7 D7, P$8 D6, P$9 D5, P$10 D4, P$11 D3, P$12 D2, P$13 D1/SDIN, P$14 D0/SCK, P$15 E/RD#, P$16 R/W#, P$17 BS0, P$18 BS1, P$19 CS#, P$20 D/C#, P$21 RES#, P$22 IREF, P$23 GPIO1, P$24 GPIO0, P$25 NC@2, P$26 VDD (power), P$27 VCI (power), P$28 VSS (power), P$29 NC@3, P$30 NC(GND)@2

## DISP_OLED_UG-2828GDEDF11TOP
designator U?, comment 128x128 1.5" RGB OLED - UG-2828GDEDF11    30-Pin 0.5mm Pitch FPC Cable (Top+Bottom Contacts) - OMRON XF2M-3015-1A (Digikey: OR723TR-ND)   This FPC connector has contacts on the top and bottom, but the appropriate pin needs to be selected depending on whether the OLED will be inserted right-side up (use the TOP pinout) or upside-down (use the BOTTOM pinout).
footprint FPC_XF2M-3015-1A
pins: P$1 NC(GND)@2, P$2 NC@3, P$3 VSS (power), P$4 VCI (power), P$5 VDD (power), P$6 NC@2, P$7 GPIO0, P$8 GPIO1, P$9 IREF, P$10 RES#, P$11 D/C#, P$12 CS#, P$13 BS1, P$14 BS0, P$15 R/W#, P$16 E/RD#, P$17 D0/SCK, P$18 D1/SDIN, P$19 D2, P$20 D3, P$21 D4, P$22 D5, P$23 D6, P$24 D7, P$25 NC@1, P$26 VSL, P$27 VDDIO (power), P$28 VCOMH (power), P$29 VCC (power), P$30 NC(GND)@1

## DISP_OLED_UG-2832HSWEG02
designator LCD?, comment 128x32 I2C 0.91" Monochrome OLED Display
footprint UG-2832HSWEG02_WRAPUNDER
pins: 1 C2+, 2 C2-, 3 C1+, 4 C1-, 5 VBAT (power), 6 VBREF (power), 7 VSS (power), 8 VDD (power), 9 RES#, 10 SCL, 11 SDA, 12 IREF, 13 VCOMH (power), 14 VCC (power)

## DISP_OLED_UG-2832HSWEG04
designator LCD?, comment 128x32 SPI 0.91" Monochrome OLED Display
footprint UG-2832HSWEG04
pins: 1 C2+, 2 C2-, 3 C1+, 4 C1-, 5 VBAT, 6 VSS, 7 VDD, 8 CS#, 9 RES#, 10 D/C#, 11 SCLK, 12 SDIN, 13 IREF, 14 VCOMH, 15 VCC

## DISP_OLED_UG-2832HSWEG04WRAPAROUND
designator LCD?, comment 128x32 SPI 0.91" Monochrome OLED Display
footprint UG-2832HSWEG04_WRAPAROUND
pins: 1 C2+, 2 C2-, 3 C1+, 4 C1-, 5 VBAT, 6 VSS, 7 VDD, 8 CS#, 9 RES#, 10 D/C#, 11 SCLK, 12 SDIN, 13 IREF, 14 VCOMH, 15 VCC

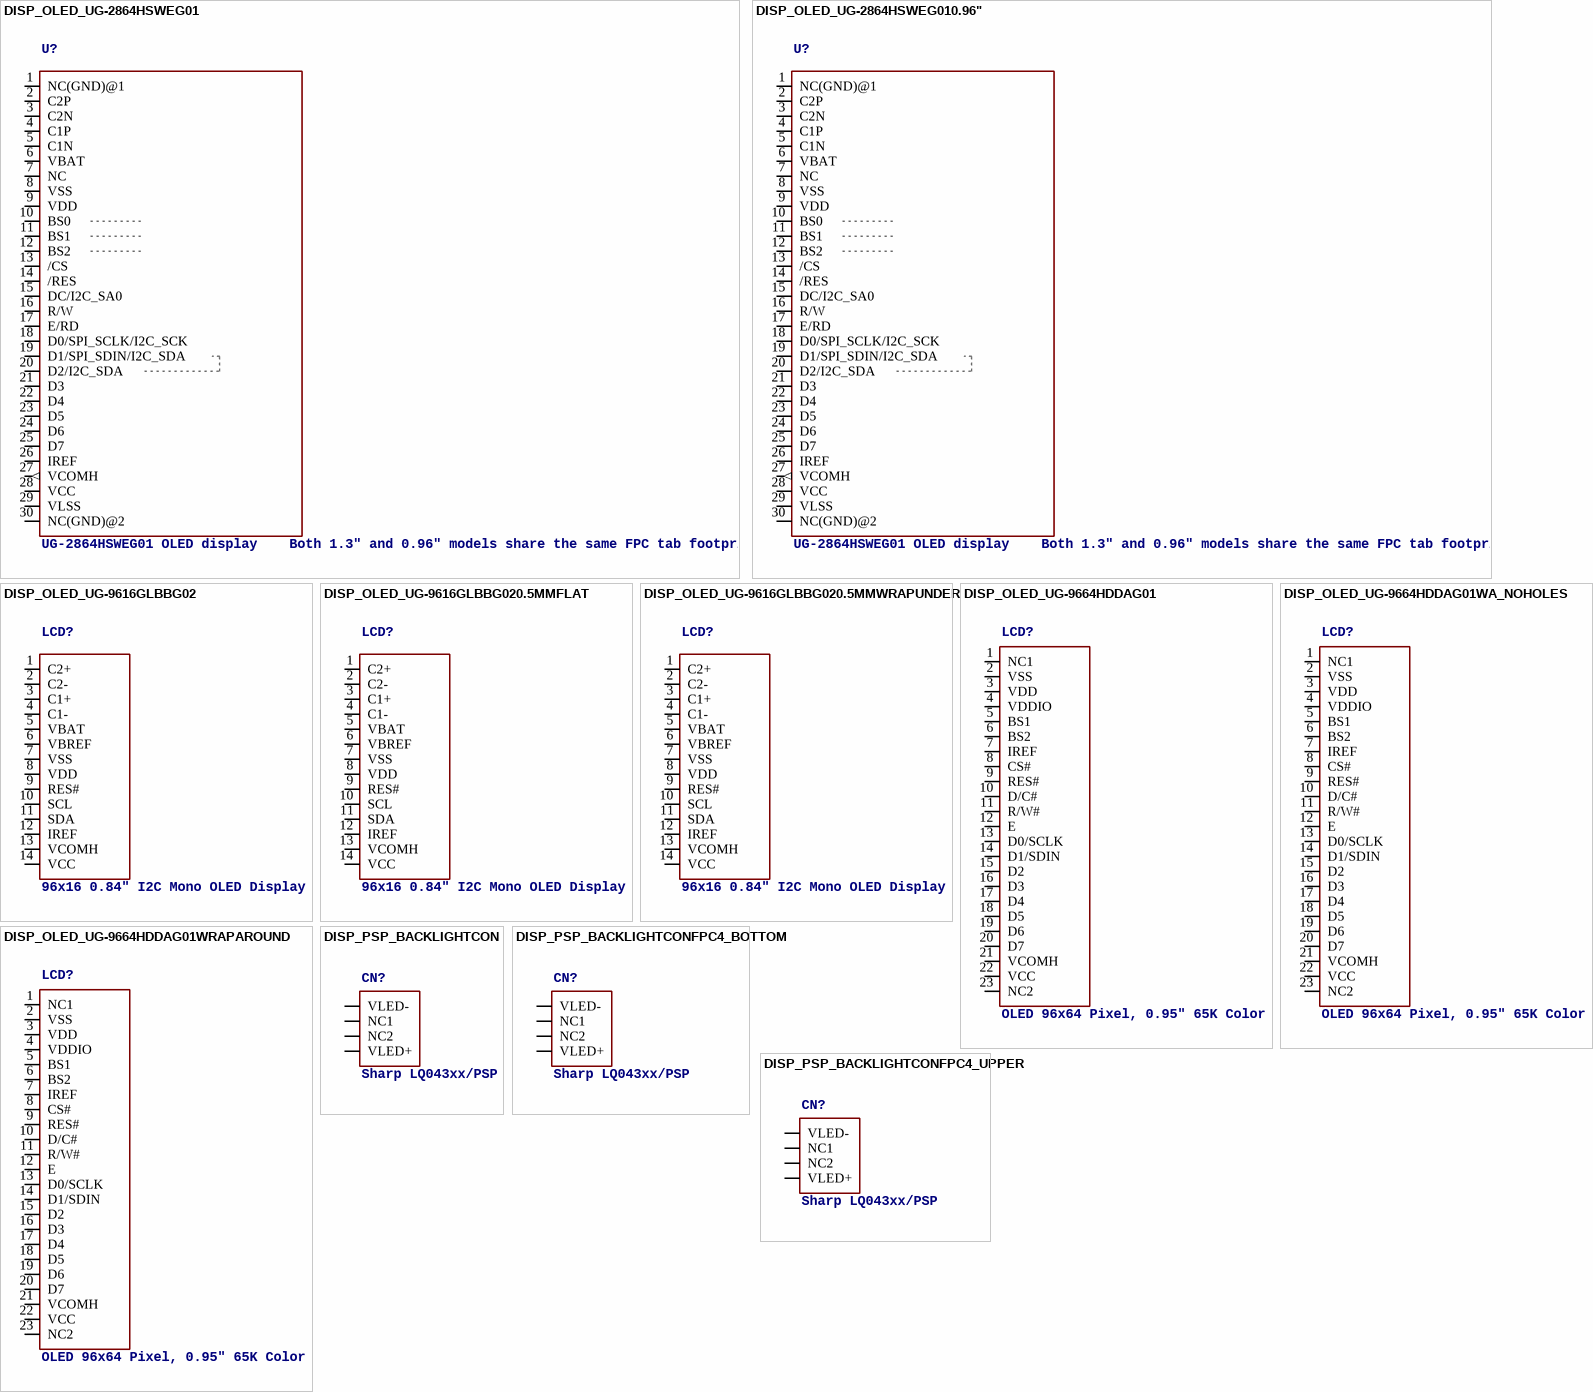
[diagram p9: symbols DISP_OLED_UG-2864HSWEG01 to DISP_PSP_BACKLIGHTCONFPC4_UPPER]

## DISP_OLED_UG-2864HSWEG01
designator U?, comment UG-2864HSWEG01 OLED display    Both 1.3" and 0.96" models share the same FPC tab footprint, only the screen dimensions vary.
footprint UG-2864HSWEG01_1.3_WRAPAROUND
pins: 1 NC(GND)@1, 2 C2P, 3 C2N, 4 C1P, 5 C1N, 6 VBAT, 7 NC, 8 VSS (power), 9 VDD (power), 10 BS0, 11 BS1, 12 BS2, 13 /CS, 14 /RES, 15 DC/I2C_SA0, 16 R/W, 17 E/RD, 18 D0/SPI_SCLK/I2C_SCK, 19 D1/SPI_SDIN/I2C_SDA, 20 D2/I2C_SDA, 21 D3, 22 D4, 23 D5, 24 D6, 25 D7, 26 IREF, 27 VCOMH (out), 28 VCC (power), 29 VLSS (power), 30 NC(GND)@2

## DISP_OLED_UG-2864HSWEG010.96"
designator U?, comment UG-2864HSWEG01 OLED display    Both 1.3" and 0.96" models share the same FPC tab footprint, only the screen dimensions vary.
footprint UG-2864HSWEG01_0.96IN_WRAPAROUND
pins: 1 NC(GND)@1, 2 C2P, 3 C2N, 4 C1P, 5 C1N, 6 VBAT, 7 NC, 8 VSS (power), 9 VDD (power), 10 BS0, 11 BS1, 12 BS2, 13 /CS, 14 /RES, 15 DC/I2C_SA0, 16 R/W, 17 E/RD, 18 D0/SPI_SCLK/I2C_SCK, 19 D1/SPI_SDIN/I2C_SDA, 20 D2/I2C_SDA, 21 D3, 22 D4, 23 D5, 24 D6, 25 D7, 26 IREF, 27 VCOMH (out), 28 VCC (power), 29 VLSS (power), 30 NC(GND)@2

## DISP_OLED_UG-9616GLBBG02
designator LCD?, comment 96x16 0.84" I2C Mono OLED Display
footprint UG-9616GLBBG02_0.65MM_WRAPAROUND
pins: 1 C2+, 2 C2-, 3 C1+, 4 C1-, 5 VBAT, 6 VBREF, 7 VSS, 8 VDD, 9 RES#, 10 SCL, 11 SDA, 12 IREF, 13 VCOMH, 14 VCC

## DISP_OLED_UG-9616GLBBG020.5MMFLAT
designator LCD?, comment 96x16 0.84" I2C Mono OLED Display
footprint UG-9616GLBBG02
pins: 1 C2+, 2 C2-, 3 C1+, 4 C1-, 5 VBAT, 6 VBREF, 7 VSS, 8 VDD, 9 RES#, 10 SCL, 11 SDA, 12 IREF, 13 VCOMH, 14 VCC

## DISP_OLED_UG-9616GLBBG020.5MMWRAPUNDER
designator LCD?, comment 96x16 0.84" I2C Mono OLED Display
footprint UG-9616GLBBG02_WRAPAROUND
pins: 1 C2+, 2 C2-, 3 C1+, 4 C1-, 5 VBAT, 6 VBREF, 7 VSS, 8 VDD, 9 RES#, 10 SCL, 11 SDA, 12 IREF, 13 VCOMH, 14 VCC

## DISP_OLED_UG-9664HDDAG01
designator LCD?, comment OLED 96x64 Pixel, 0.95" 65K Color
footprint UG-9664HDDAG01
pins: 1 NC1, 2 VSS, 3 VDD, 4 VDDIO, 5 BS1, 6 BS2, 7 IREF, 8 CS#, 9 RES#, 10 D/C#, 11 R/W#, 12 E, 13 D0/SCLK, 14 D1/SDIN, 15 D2, 16 D3, 17 D4, 18 D5, 19 D6, 20 D7, 21 VCOMH, 22 VCC, 23 NC2

## DISP_OLED_UG-9664HDDAG01WA_NOHOLES
designator LCD?, comment OLED 96x64 Pixel, 0.95" 65K Color
footprint UG-9664HDDAG01_WRAPAROUND_NOHOLES
pins: 1 NC1, 2 VSS, 3 VDD, 4 VDDIO, 5 BS1, 6 BS2, 7 IREF, 8 CS#, 9 RES#, 10 D/C#, 11 R/W#, 12 E, 13 D0/SCLK, 14 D1/SDIN, 15 D2, 16 D3, 17 D4, 18 D5, 19 D6, 20 D7, 21 VCOMH, 22 VCC, 23 NC2

## DISP_OLED_UG-9664HDDAG01WRAPAROUND
designator LCD?, comment OLED 96x64 Pixel, 0.95" 65K Color
footprint UG-9664HDDAG01_WRAPAROUND
pins: 1 NC1, 2 VSS, 3 VDD, 4 VDDIO, 5 BS1, 6 BS2, 7 IREF, 8 CS#, 9 RES#, 10 D/C#, 11 R/W#, 12 E, 13 D0/SCLK, 14 D1/SDIN, 15 D2, 16 D3, 17 D4, 18 D5, 19 D6, 20 D7, 21 VCOMH, 22 VCC, 23 NC2

## DISP_PSP_BACKLIGHTCON
designator CN?, comment Sharp LQ043xx/PSP Backlight Connector FPC4_UPPER - FPC Connector w/Upper Contacts  FPC4_BOTTOM - FPC Connector w/Bottom Contacts       Use the UPPER connector if the LCD connector is on one side of the board and the screen will be wrapped around the edge onto the other side of the board (which is what normally happens).   Use the BOTTOM connector if the LCD and the connector are on the same side of the board (the cable with be folded directly underneath the screen).
footprint PSP_BACKLIGHTCON
pins: NC1, NC2, VLED+ (power), VLED- (power)

## DISP_PSP_BACKLIGHTCONFPC4_BOTTOM
designator CN?, comment Sharp LQ043xx/PSP Backlight Connector FPC4_UPPER - FPC Connector w/Upper Contacts  FPC4_BOTTOM - FPC Connector w/Bottom Contacts       Use the UPPER connector if the LCD connector is on one side of the board and the screen will be wrapped around the edge onto the other side of the board (which is what normally happens).   Use the BOTTOM connector if the LCD and the connector are on the same side of the board (the cable with be folded directly underneath the screen).
footprint FPC4PIN
pins: 1 VLED+ (power), 2 NC2, 3 NC1, 4 VLED- (power)

## DISP_PSP_BACKLIGHTCONFPC4_UPPER
designator CN?, comment Sharp LQ043xx/PSP Backlight Connector FPC4_UPPER - FPC Connector w/Upper Contacts  FPC4_BOTTOM - FPC Connector w/Bottom Contacts       Use the UPPER connector if the LCD connector is on one side of the board and the screen will be wrapped around the edge onto the other side of the board (which is what normally happens).   Use the BOTTOM connector if the LCD and the connector are on the same side of the board (the cable with be folded directly underneath the screen).
footprint FPC4PIN
pins: 1 VLED- (power), 2 NC1, 3 NC2, 4 VLED+ (power)

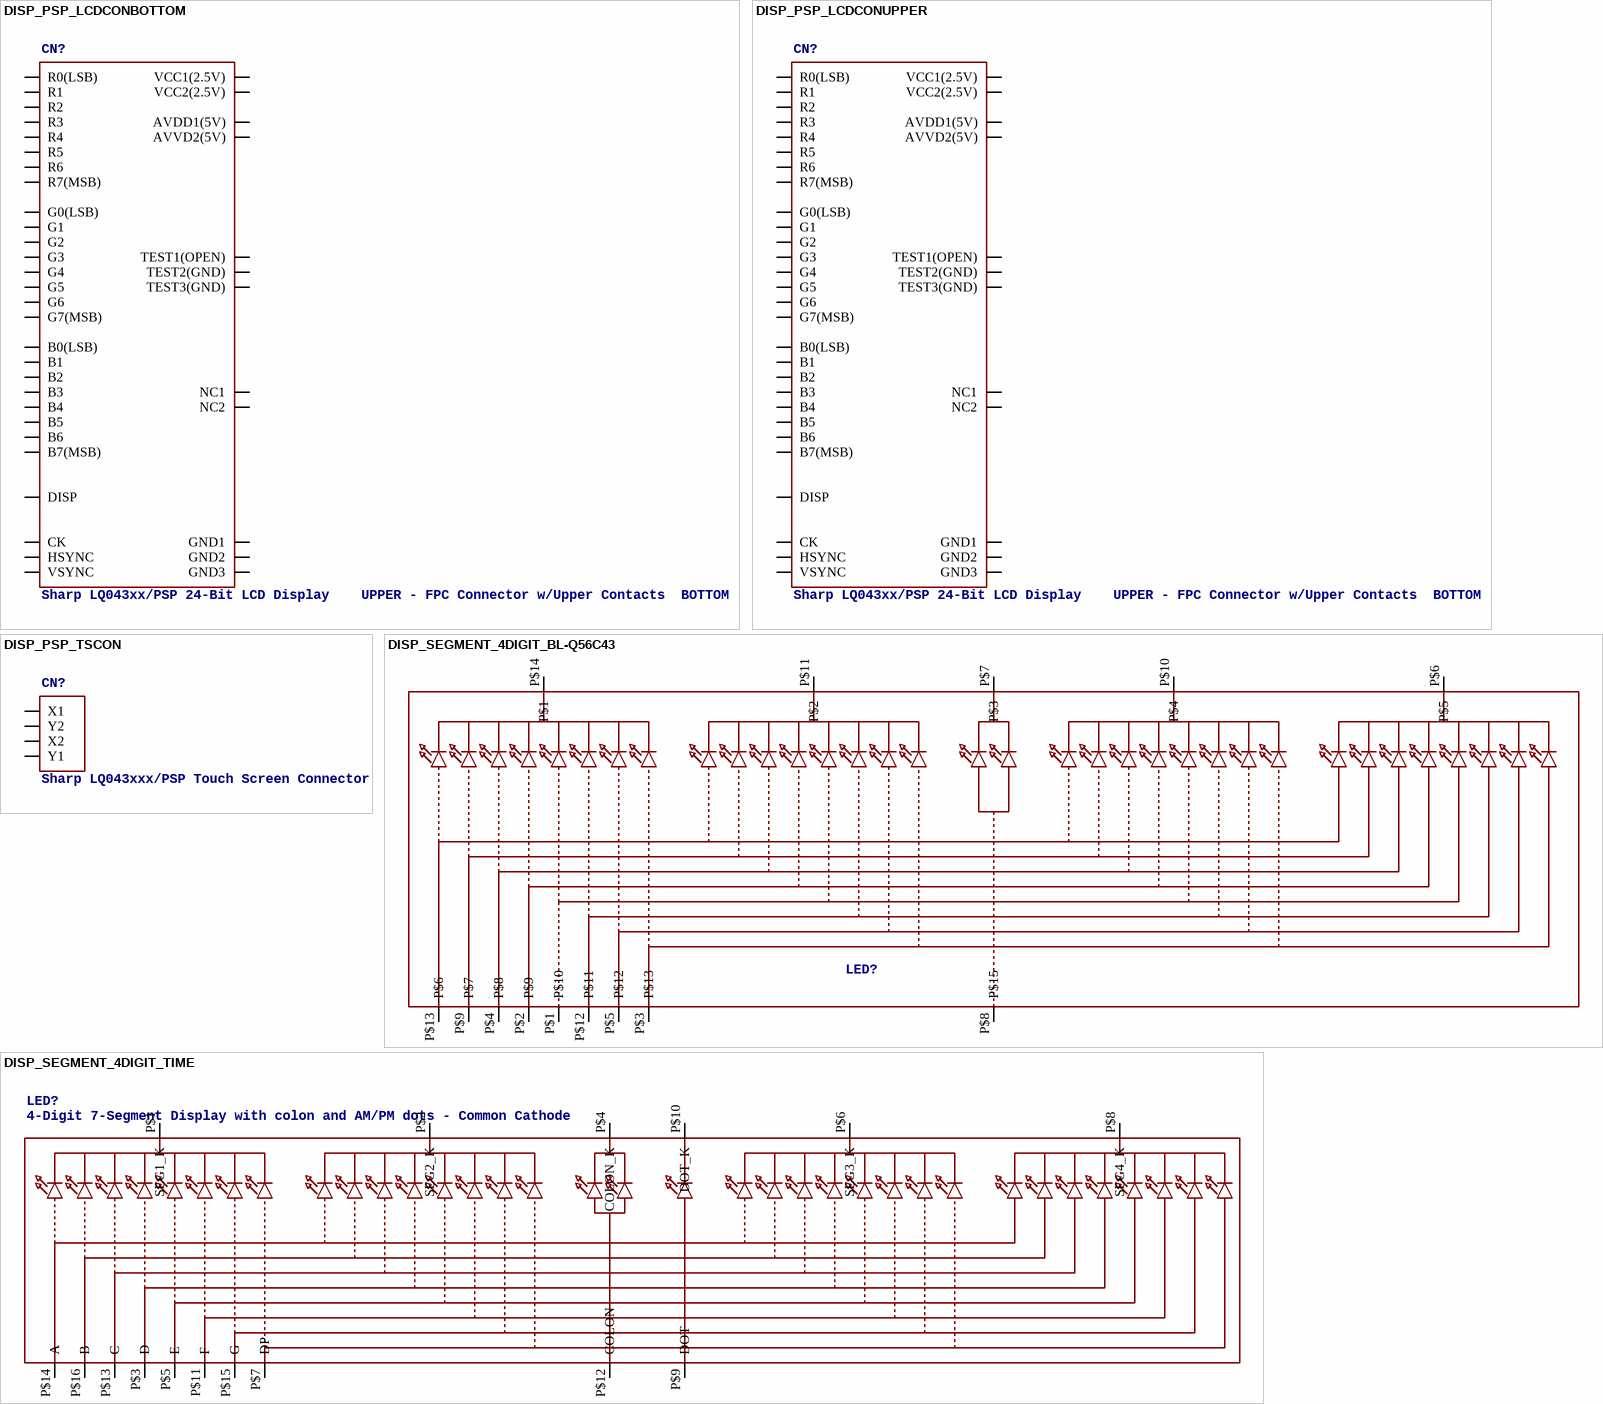
[diagram p10: symbols DISP_PSP_LCDCONBOTTOM to DISP_SEGMENT_4DIGIT_TIME]

## DISP_PSP_LCDCONBOTTOM
designator CN?, comment Sharp LQ043xx/PSP 24-Bit LCD Display    UPPER - FPC Connector w/Upper Contacts  BOTTOM - FPC Connector w/Bottom Contacts       Use the UPPER connector if the LCD connector is on one side of the board and the LCD will be wrapped around the edge onto the other side of the board (which is what normally happens).   Use the BOTTOM connector if the LCD and the connector are on the same side of the board (the cable with be folded directly underneath the LCD).
footprint FPC40PIN
pins: P$1 GND1 (power), P$2 GND2 (power), P$3 VCC1(2.5V) (power), P$4 VCC2(2.5V) (power), P$5 R0(LSB), P$6 R1, P$7 R2, P$8 R3, P$9 R4, P$10 R5, P$11 R6, P$12 R7(MSB), P$13 G0(LSB), P$14 G1, P$15 G2, P$16 G3, P$17 G4, P$18 G5, P$19 G6, P$20 G7(MSB), P$21 B0(LSB), P$22 B1, P$23 B2, P$24 B3, P$25 B4, P$26 B5, P$27 B6, P$28 B7(MSB), P$29 GND3 (power), P$30 CK, P$31 DISP, P$32 HSYNC, P$33 VSYNC, P$34 NC1, P$35 AVDD1(5V), P$36 AVVD2(5V), P$37 NC2, P$38 TEST1(OPEN), P$39 TEST2(GND), P$40 TEST3(GND)

## DISP_PSP_LCDCONUPPER
designator CN?, comment Sharp LQ043xx/PSP 24-Bit LCD Display    UPPER - FPC Connector w/Upper Contacts  BOTTOM - FPC Connector w/Bottom Contacts       Use the UPPER connector if the LCD connector is on one side of the board and the LCD will be wrapped around the edge onto the other side of the board (which is what normally happens).   Use the BOTTOM connector if the LCD and the connector are on the same side of the board (the cable with be folded directly underneath the LCD).
footprint FPC40PIN
pins: P$1 TEST3(GND), P$2 TEST2(GND), P$3 TEST1(OPEN), P$4 NC2, P$5 AVVD2(5V), P$6 AVDD1(5V), P$7 NC1, P$8 VSYNC, P$9 HSYNC, P$10 DISP, P$11 CK, P$12 GND3 (power), P$13 B7(MSB), P$14 B6, P$15 B5, P$16 B4, P$17 B3, P$18 B2, P$19 B1, P$20 B0(LSB), P$21 G7(MSB), P$22 G6, P$23 G5, P$24 G4, P$25 G3, P$26 G2, P$27 G1, P$28 G0(LSB), P$29 R7(MSB), P$30 R6, P$31 R5, P$32 R4, P$33 R3, P$34 R2, P$35 R1, P$36 R0(LSB), P$37 VCC2(2.5V) (power), P$38 VCC1(2.5V) (power), P$39 GND2 (power), P$40 GND1 (power)

## DISP_PSP_TSCON
designator CN?, comment Sharp LQ043xxx/PSP Touch Screen Connector
footprint PSP_TSCON
pins: X1, X2, Y1, Y2

## DISP_SEGMENT_4DIGIT_BL-Q56C43
designator LED?
footprint SEGMENT-BL-Q56C43
pins: P$1 P$10, P$2 P$9, P$3 P$13, P$4 P$8, P$5 P$12, P$6 P$5, P$7 P$3, P$8 P$15, P$9 P$7, P$10 P$4, P$11 P$2, P$12 P$11, P$13 P$6, P$14 P$1

## DISP_SEGMENT_4DIGIT_TIME
designator LED?, comment 4-Digit 7-Segment Display with colon and AM/PM dots - Common Cathode
footprint SEGMENT_BL-Q39A-42
pins: P$1 SEG1_K, P$2 SEG2_K, P$3 D, P$4 COLON_K, P$5 E, P$6 SEG3_K, P$7 DP, P$8 SEG4_K, P$9 DOT, P$10 DOT_K, P$11 F, P$12 COLON, P$13 C, P$14 A, P$15 G, P$16 B

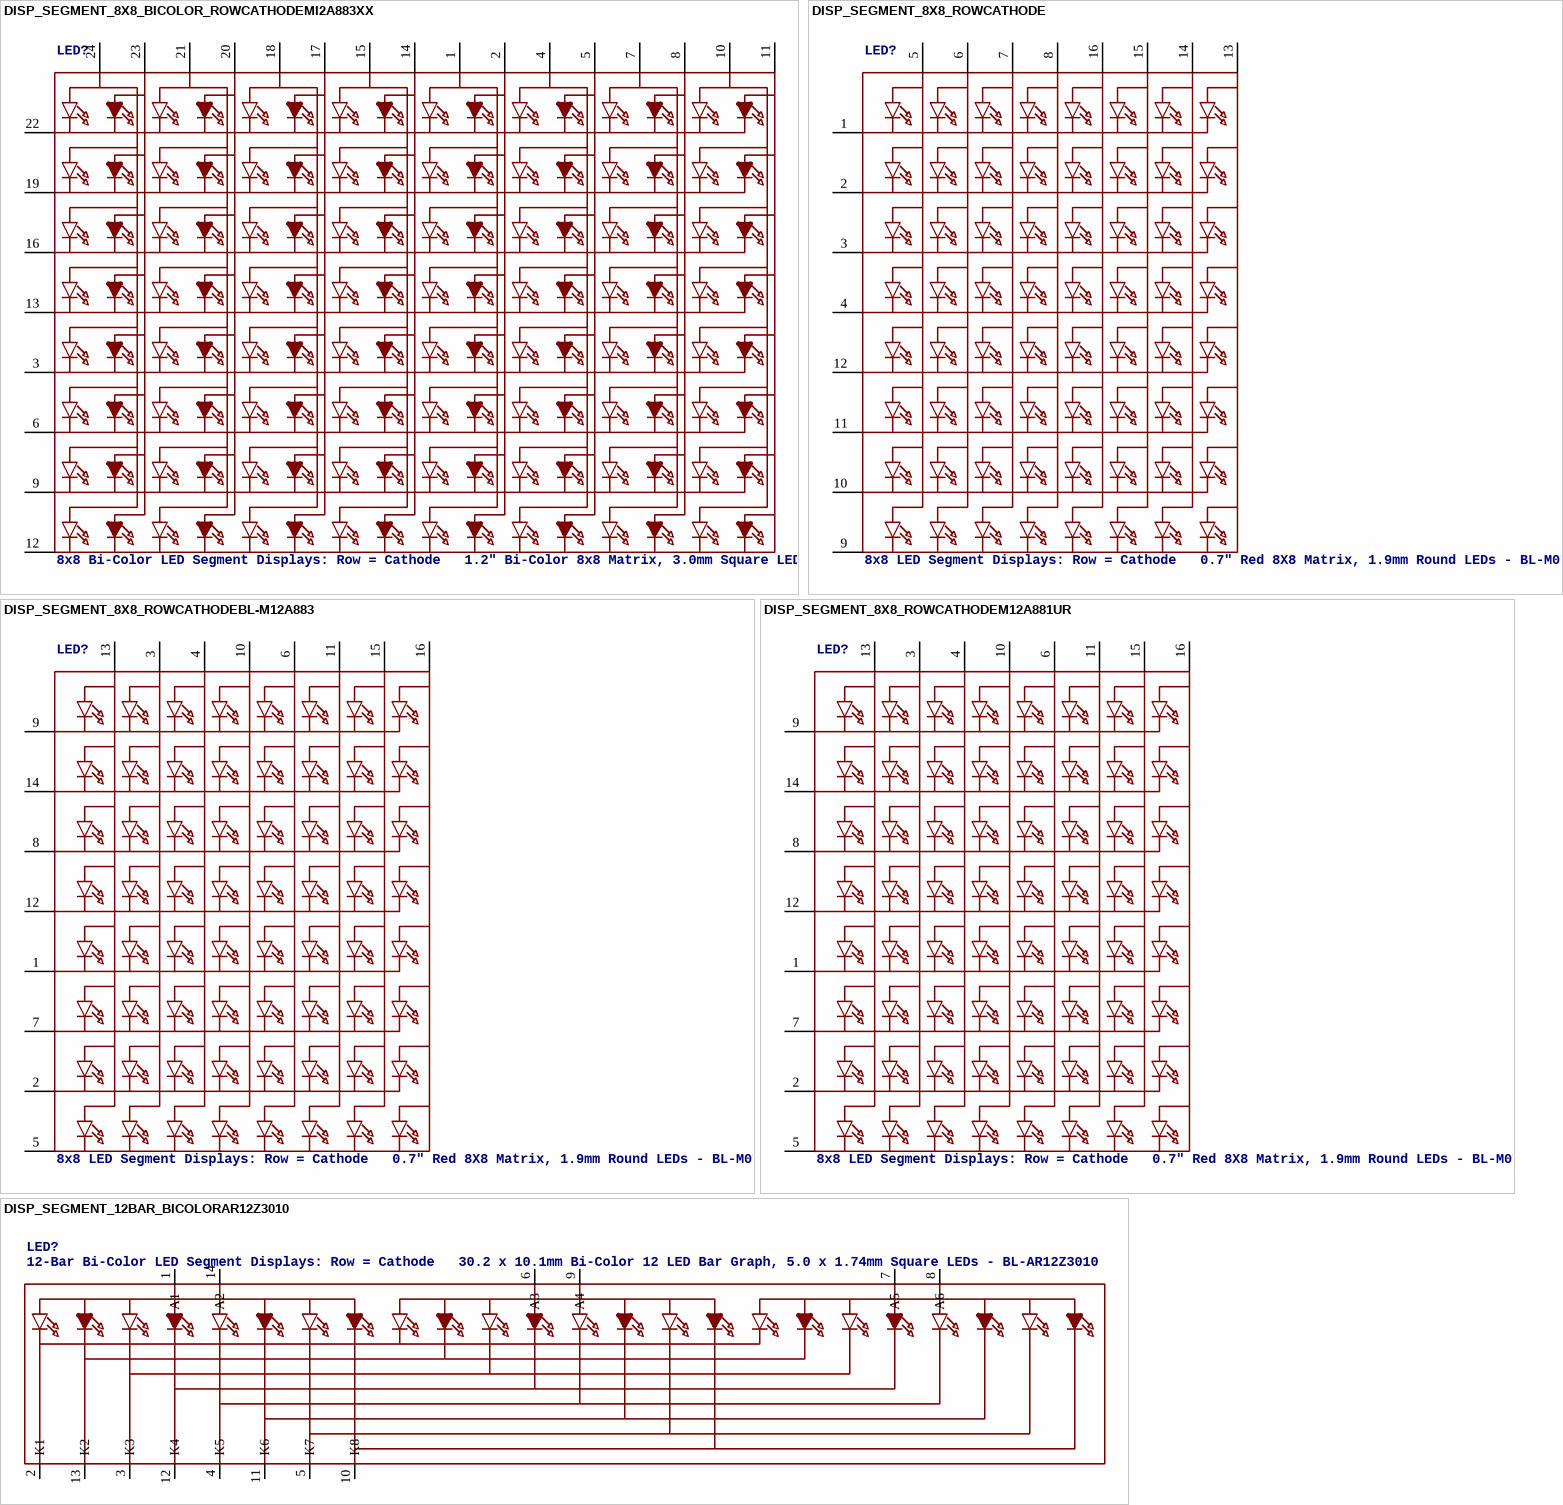
[diagram p11: symbols DISP_SEGMENT_8X8_BICOLOR_ROWCATHODEMI2A883XX to DISP_SEGMENT_12BAR_BICOLORAR12Z3010]

## DISP_SEGMENT_8X8_BICOLOR_ROWCATHODEMI2A883XX
designator LED?, comment 8x8 Bi-Color LED Segment Displays: Row = Cathode   1.2" Bi-Color 8x8 Matrix, 3.0mm Square LEDs - BL-M12A883XX
footprint SEGMENT_BICOL_BL-M12A883XX
pins: 1 A9, 2 A10, 3 K5, 4 A11, 5 A12, 6 K6, 7 A13, 8 A14, 9 K7, 10 A15, 11 A16, 12 K8, 13 K4, 14 A8, 15 A7, 16 K3, 17 A6, 18 A5, 19 K2, 20 A4, 21 A3, 22 K1, 23 A2, 24 A1

## DISP_SEGMENT_8X8_ROWCATHODE
designator LED?, comment 8x8 LED Segment Displays: Row = Cathode   0.7" Red 8X8 Matrix, 1.9mm Round LEDs - BL-M07C881UR   1.2" Red 8x8 Matrix, 3.0mm Round LEDs - BL-M12A881UR   1.2" Red 8x8 Matrix, 3.0mm Square LEDs - BL-M12A883
footprint SEGMENT_BL-M07C881UR
pins: 1 K1, 2 K2, 3 K3, 4 K4, 5 A1, 6 A2, 7 A3, 8 A4, 9 K8, 10 K7, 11 K6, 12 K5, 13 A8, 14 A7, 15 A6, 16 A5

## DISP_SEGMENT_8X8_ROWCATHODEBL-M12A883
designator LED?, comment 8x8 LED Segment Displays: Row = Cathode   0.7" Red 8X8 Matrix, 1.9mm Round LEDs - BL-M07C881UR   1.2" Red 8x8 Matrix, 3.0mm Round LEDs - BL-M12A881UR   1.2" Red 8x8 Matrix, 3.0mm Square LEDs - BL-M12A883
footprint SEGMENT_BL-M12A883
pins: 1 K5, 2 K7, 3 A2, 4 A3, 5 K8, 6 A5, 7 K6, 8 K3, 9 K1, 10 A4, 11 A6, 12 K4, 13 A1, 14 K2, 15 A7, 16 A8

## DISP_SEGMENT_8X8_ROWCATHODEM12A881UR
designator LED?, comment 8x8 LED Segment Displays: Row = Cathode   0.7" Red 8X8 Matrix, 1.9mm Round LEDs - BL-M07C881UR   1.2" Red 8x8 Matrix, 3.0mm Round LEDs - BL-M12A881UR   1.2" Red 8x8 Matrix, 3.0mm Square LEDs - BL-M12A883
footprint SEGMENT_BL-M12A881UR
pins: 1 K5, 2 K7, 3 A2, 4 A3, 5 K8, 6 A5, 7 K6, 8 K3, 9 K1, 10 A4, 11 A6, 12 K4, 13 A1, 14 K2, 15 A7, 16 A8

## DISP_SEGMENT_12BAR_BICOLORAR12Z3010
designator LED?, comment 12-Bar Bi-Color LED Segment Displays: Row = Cathode   30.2 x 10.1mm Bi-Color 12 LED Bar Graph, 5.0 x 1.74mm Square LEDs - BL-AR12Z3010
footprint SEGMENT_BICOL_BL-AR12Z3010
pins: 1 A1, 2 K1, 3 K3, 4 K5, 5 K7, 6 A3, 7 A5, 8 A6, 9 A4, 10 K8, 11 K6, 12 K4, 13 K2, 14 A2

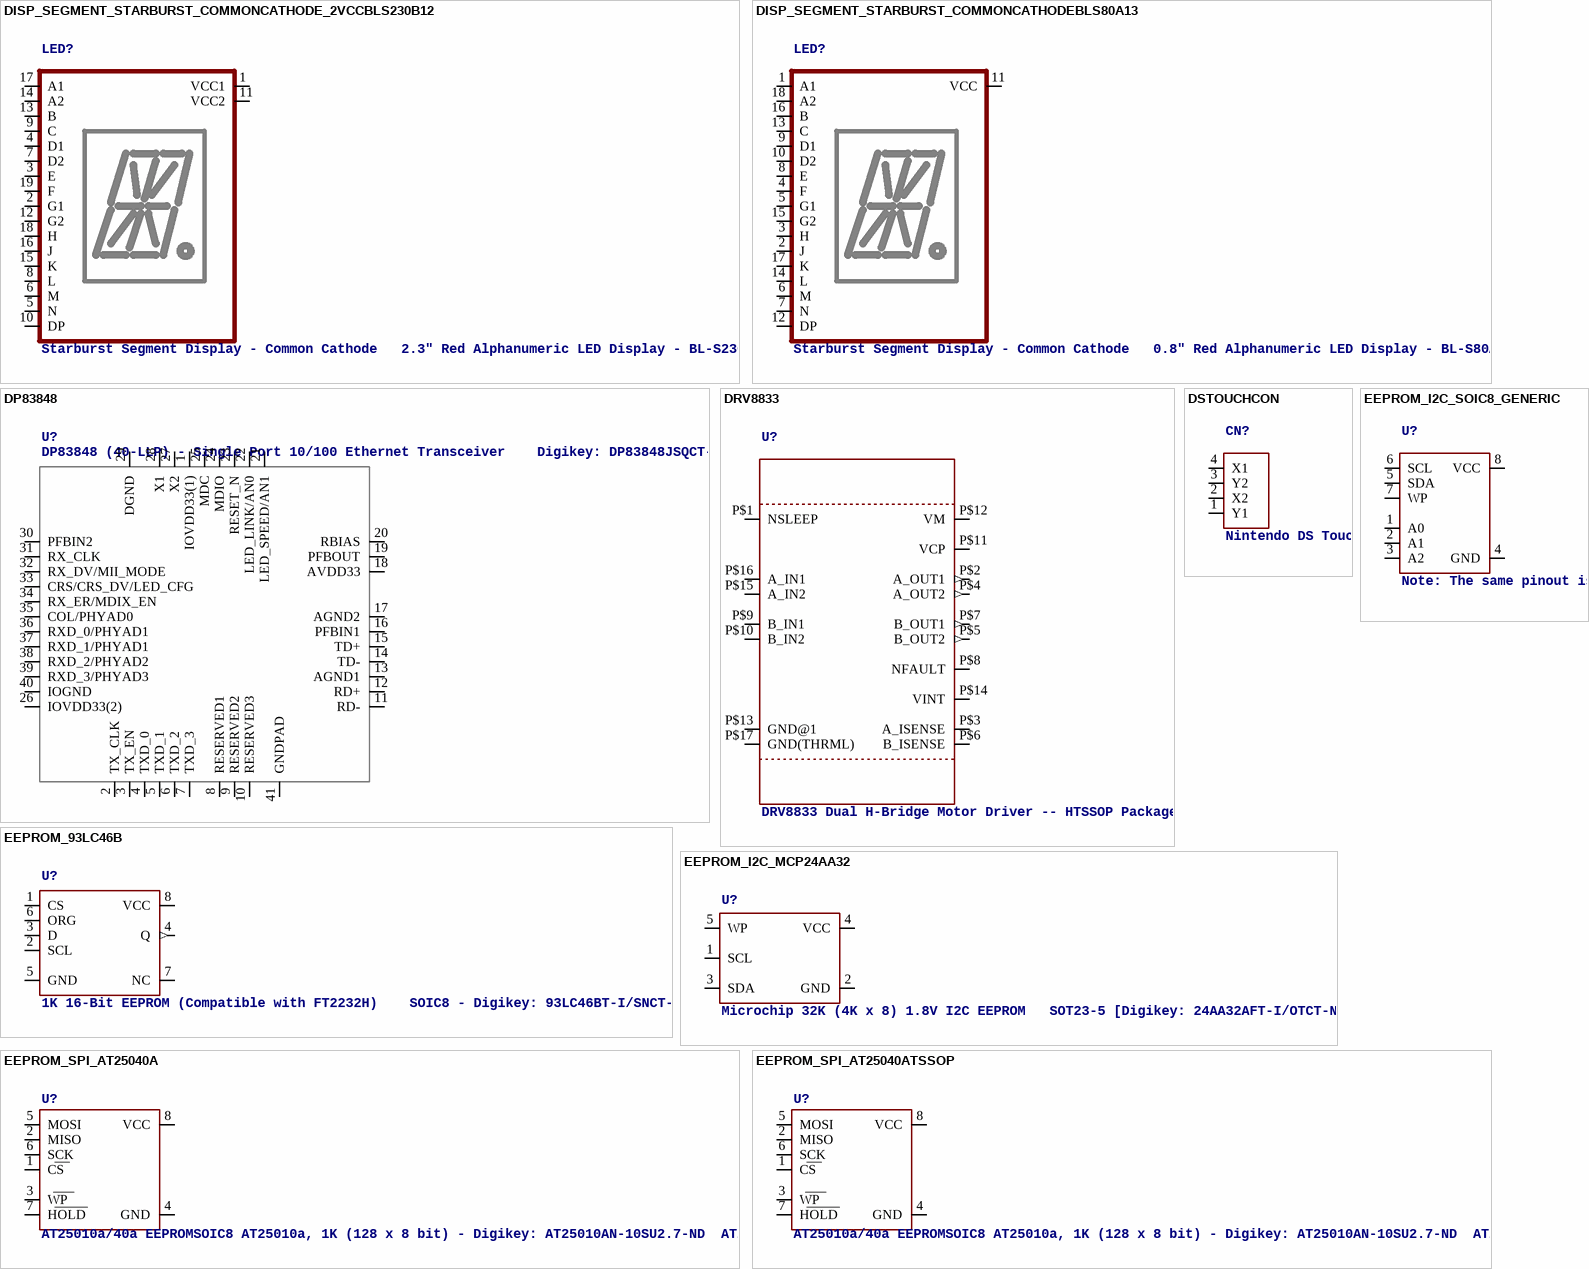
[diagram p12: symbols DISP_SEGMENT_STARBURST_COMMONCATHODE_2VCCBLS230B12 to EEPROM_SPI_AT25040ATSSOP]

## DISP_SEGMENT_STARBURST_COMMONCATHODE_2VCCBLS230B12
designator LED?, comment Starburst Segment Display - Common Cathode   2.3" Red Alphanumeric LED Display - BL-S230B-12
footprint SEGMENT_STARBURST_BL-S230B-12
pins: 1 VCC1 (power), 2 G1, 3 E, 4 D1, 5 N, 6 M, 7 D2, 8 L, 9 C, 10 DP, 11 VCC2 (power), 12 G2, 13 B, 14 A2, 15 K, 16 J, 17 A1, 18 H, 19 F

## DISP_SEGMENT_STARBURST_COMMONCATHODEBLS80A13
designator LED?, comment Starburst Segment Display - Common Cathode   0.8" Red Alphanumeric LED Display - BL-S80A-13UHR-11
footprint SEGMENT_STARBURST_BL-S80A-13
pins: 1 A1, 2 J, 3 H, 4 F, 5 G1, 6 M, 7 N, 8 E, 9 D1, 10 D2, 11 VCC (power), 12 DP, 13 C, 14 L, 15 G2, 16 B, 17 K, 18 A2

## DP83848
designator U?, comment DP83848 (40-LLP) - Single Port 10/100 Ethernet Transceiver    Digikey: DP83848JSQCT-ND
footprint LLP40
pins: 1 IOVDD33(1), 2 TX_CLK, 3 TX_EN, 4 TXD_0, 5 TXD_1, 6 TXD_2, 7 TXD_3, 8 RESERVED1, 9 RESERVED2, 10 RESERVED3, 11 RD-, 12 RD+, 13 AGND1, 14 TD-, 15 TD+, 16 PFBIN1, 17 AGND2, 18 AVDD33, 19 PFBOUT, 20 RBIAS, 21 LED_SPEED/AN1, 22 LED_LINK/AN0, 23 RESET_N, 24 MDIO, 25 MDC, 26 IOVDD33(2), 27 X2, 28 X1, 29 DGND, 30 PFBIN2, 31 RX_CLK, 32 RX_DV/MII_MODE, 33 CRS/CRS_DV/LED_CFG, 34 RX_ER/MDIX_EN, 35 COL/PHYAD0, 36 RXD_0/PHYAD1, 37 RXD_1/PHYAD1, 38 RXD_2/PHYAD2, 39 RXD_3/PHYAD3, 40 IOGND, 41 GNDPAD

## DRV8833
designator U?, comment DRV8833 Dual H-Bridge Motor Driver -- HTSSOP Package
footprint HTSSOP16
pins: P$1 NSLEEP, P$2 A_OUT1 (out), P$3 A_ISENSE, P$4 A_OUT2 (out), P$5 B_OUT2 (out), P$6 B_ISENSE, P$7 B_OUT1 (out), P$8 NFAULT, P$9 B_IN1, P$10 B_IN2, P$11 VCP, P$12 VM (power), P$13 GND@1 (power), P$14 VINT (power), P$15 A_IN2, P$16 A_IN1, P$17 GND(THRML) (power)

## DSTOUCHCON
designator CN?, comment Nintendo DS Touch Screen Connector [Part No.]4 pin 0.5mm Pitch ZIF Cable Connector    Upper Contacts - 4UConnector: 08644 Bottom Contacts - 4UConnector: 11793
footprint FPC4PIN
pins: 1 Y1, 2 X2, 3 Y2, 4 X1

## EEPROM_93LC46B
designator U?, comment 1K 16-Bit EEPROM (Compatible with FT2232H)    SOIC8 - Digikey: 93LC46BT-I/SNCT-ND
footprint SOIC8_150MIL
pins: 1 CS, 2 SCL, 3 D, 4 Q (out), 5 GND (power), 6 ORG, 7 NC, 8 VCC (power)

## EEPROM_I2C_MCP24AA32
designator U?, comment Microchip 32K (4K x 8) 1.8V I2C EEPROM   SOT23-5 [Digikey: 24AA32AFT-I/OTCT-ND]
footprint SOT23-5
pins: 1 SCL, 2 GND, 3 SDA, 4 VCC, 5 WP

## EEPROM_I2C_SOIC8_GENERIC
designator U?, comment Note: The same pinout is used for many I2C EEPROMs in SOIC8(150mil) from a variety of manufacturers and in various sizes.   Examples:   16K (2K x 8 Bit) I2C EEPROM 1.7-5.5V, 400KHz, -40°C-85°C Digikey: CAT24C16WI-GT3CT-ND   256K (32K x 8 Bit) I2C EEPROM 1.7-5.5V, 400KHz, -40°C-85°C Digikey: 24AA256-I/SN-ND
footprint SOIC8_150MIL
pins: 1 A0, 2 A1, 3 A2, 4 GND (power), 5 SDA, 6 SCL, 7 WP, 8 VCC (power)

## EEPROM_SPI_AT25040A
designator U?, comment AT25010a/40a EEPROMSOIC8 AT25010a, 1K (128 x 8 bit) - Digikey: AT25010AN-10SU2.7-ND  AT25040a, 4K (256 x 8 bit) - Digikey: AT25040AN-10SU1.8-ND    TSSOP8 AT25010a, 1K (128 x 8 bit) - Digikey: AT25010A-10TU-1.8-ND  AT25040a, 4K (256 x 8 bit) - Digikey: AT25040A-10TU-1.8-ND
footprint SOIC8_150MIL
pins: 1 CS, 2 MISO, 3 WP, 4 GND (power), 5 MOSI, 6 SCK, 7 HOLD, 8 VCC (power)

## EEPROM_SPI_AT25040ATSSOP
designator U?, comment AT25010a/40a EEPROMSOIC8 AT25010a, 1K (128 x 8 bit) - Digikey: AT25010AN-10SU2.7-ND  AT25040a, 4K (256 x 8 bit) - Digikey: AT25040AN-10SU1.8-ND    TSSOP8 AT25010a, 1K (128 x 8 bit) - Digikey: AT25010A-10TU-1.8-ND  AT25040a, 4K (256 x 8 bit) - Digikey: AT25040A-10TU-1.8-ND
footprint TSSOP8-4.4MM
pins: 1 CS, 2 MISO, 3 WP, 4 GND (power), 5 MOSI, 6 SCK, 7 HOLD, 8 VCC (power)

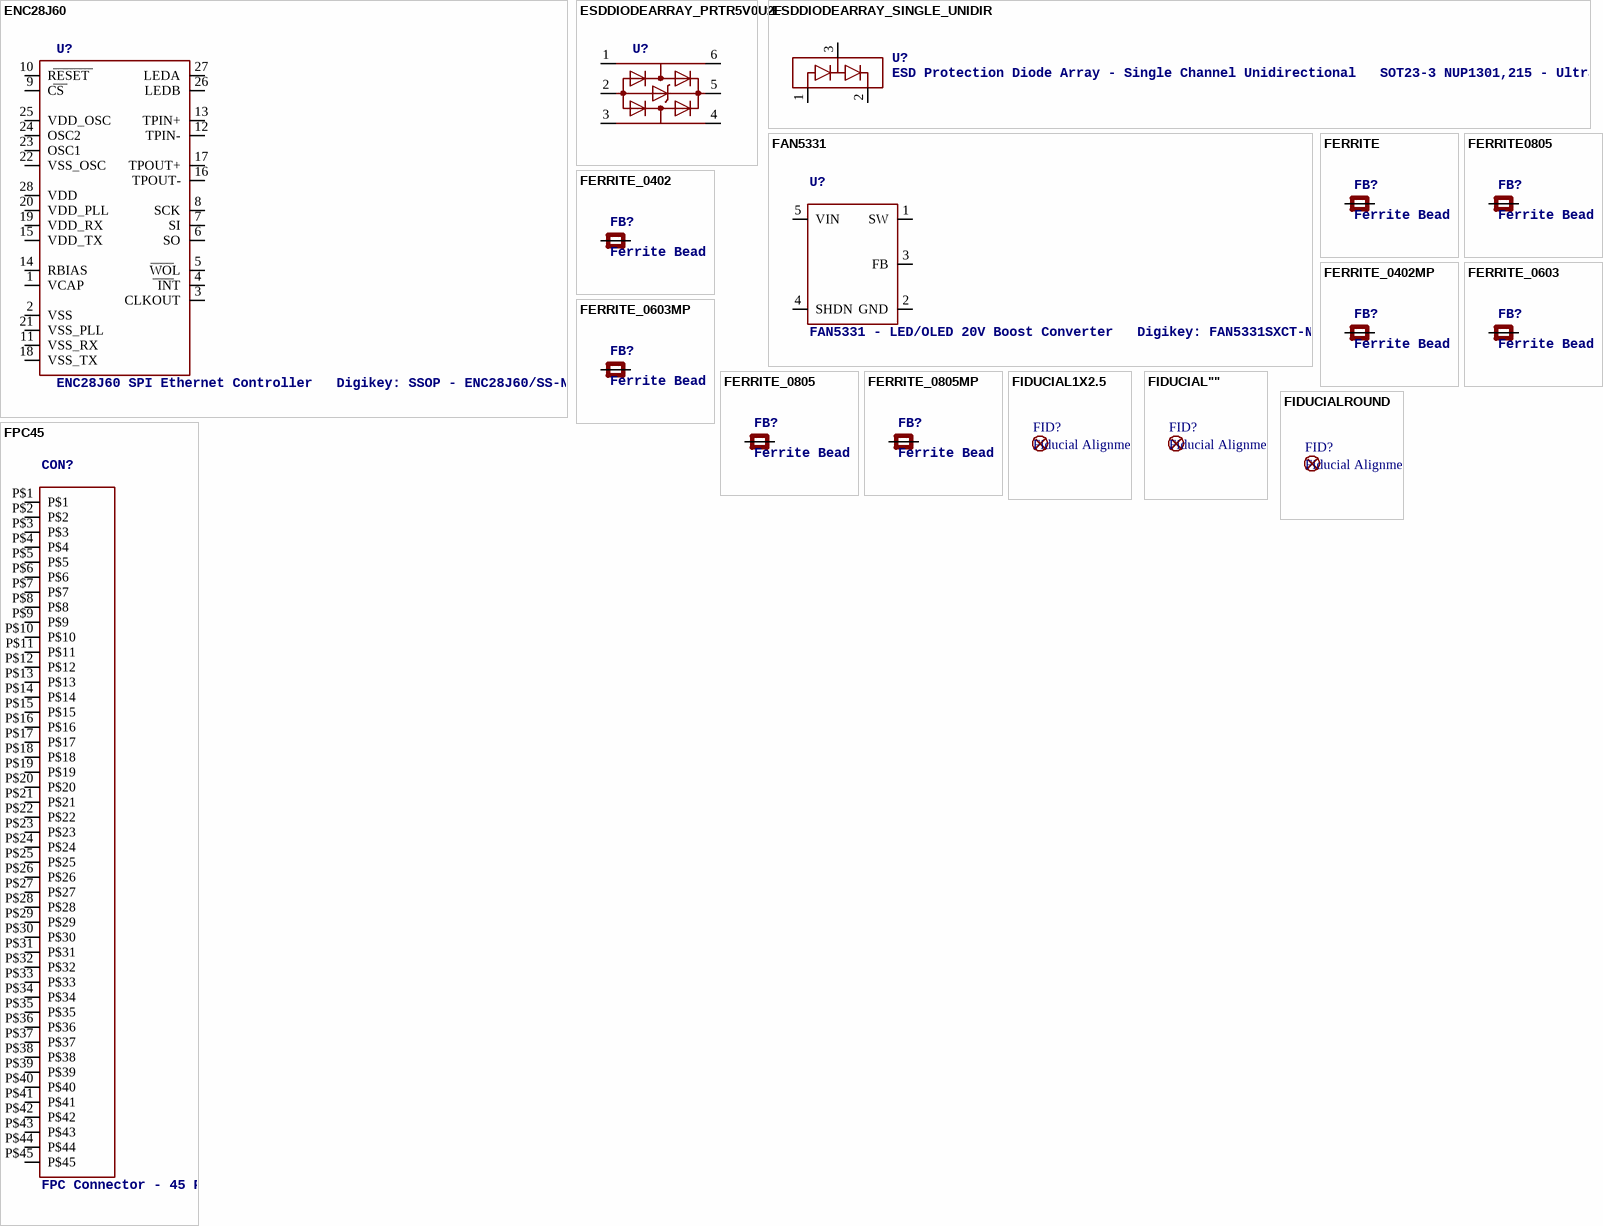
[diagram p13: symbols ENC28J60 to FPC45]

## ENC28J60
designator U?, comment ENC28J60 SPI Ethernet Controller   Digikey: SSOP - ENC28J60/SS-ND
footprint SSOP28DB
pins: 1 VCAP, 2 VSS, 3 CLKOUT, 4 INT, 5 WOL, 6 SO, 7 SI, 8 SCK, 9 CS, 10 RESET, 11 VSS_RX, 12 TPIN-, 13 TPIN+, 14 RBIAS, 15 VDD_TX, 16 TPOUT-, 17 TPOUT+, 18 VSS_TX, 19 VDD_RX, 20 VDD_PLL, 21 VSS_PLL, 22 VSS_OSC, 23 OSC1, 24 OSC2, 25 VDD_OSC, 26 LEDB, 27 LEDA, 28 VDD

## ESDDIODEARRAY_PRTR5V0U2F
designator U?
footprint SOT886
pins: 1 I/O1_1, 2 GND, 3 I/O2_1, 4 I/O2_2, 5 VBUS, 6 I/O1_2

## ESDDIODEARRAY_SINGLE_UNIDIR
designator U?, comment ESD Protection Diode Array - Single Channel Unidirectional   SOT23-3 NUP1301,215 - Ultra low capacitance (0.6pF), Rev Voltage 80V, Forward Current: 215mA - Digikey: 568-6351-1-ND
footprint SOT23-WIDE
pins: 1 GNDPIN (power), 2 SUPPLYPIN (power), 3 IO

## FAN5331
designator U?, comment FAN5331 - LED/OLED 20V Boost Converter   Digikey: FAN5331SXCT-ND
footprint SOT23-5
pins: 1 SW, 2 GND, 3 FB, 4 SHDN, 5 VIN

## FERRITE
designator FB?, comment Ferrite Bead   0603 MMZ1608B121C - 120 Ohm @ 100MHz, 600mA, 0.15 Ohm DC Resistance - Digikey: 445-2164-1-ND  BK1608HW121-T - 120 Ohm, 600mA Ferrite Chip - Digikey: 587-1876-2-ND       0805 HZ0805B272R-10 - 2.7K Ohm @ 100MHz, 200mA, 0.8 Ohm DC Resistance - Digikey: 240-2504-1-ND (see also Murata BLM21BD272SN1L)  MMZ2012Y152B - 1.5K Ohm @ 100MHz, 500mA, 0.4 Ohm DC Resistance - Digikey: 445-1560-1-ND - Mainly for high frequency (80-400MHz)  MMZ2012R102A - 1K Ohm @ 100MHz, 500mA, 0.3 Ohm DC Resistance - Digikey: 445-1555-2-ND - More general purpose (10-200MHz)
footprint 0603
pins: 1 P$1, 2 P$2

## FERRITE0805
designator FB?, comment Ferrite Bead   0603 MMZ1608B121C - 120 Ohm @ 100MHz, 600mA, 0.15 Ohm DC Resistance - Digikey: 445-2164-1-ND  BK1608HW121-T - 120 Ohm, 600mA Ferrite Chip - Digikey: 587-1876-2-ND       0805 HZ0805B272R-10 - 2.7K Ohm @ 100MHz, 200mA, 0.8 Ohm DC Resistance - Digikey: 240-2504-1-ND (see also Murata BLM21BD272SN1L)  MMZ2012Y152B - 1.5K Ohm @ 100MHz, 500mA, 0.4 Ohm DC Resistance - Digikey: 445-1560-1-ND - Mainly for high frequency (80-400MHz)  MMZ2012R102A - 1K Ohm @ 100MHz, 500mA, 0.3 Ohm DC Resistance - Digikey: 445-1555-2-ND - More general purpose (10-200MHz)
footprint 0805
pins: 1 P$1, 2 P$2

## FERRITE_0402
designator FB?, comment Ferrite Bead   0603 MMZ1608B121C - 120 Ohm @ 100MHz, 600mA, 0.15 Ohm DC Resistance - Digikey: 445-2164-1-ND  BK1608HW121-T - 120 Ohm, 600mA Ferrite Chip - Digikey: 587-1876-2-ND       0805 HZ0805B272R-10 - 2.7K Ohm @ 100MHz, 200mA, 0.8 Ohm DC Resistance - Digikey: 240-2504-1-ND (see also Murata BLM21BD272SN1L)  MMZ2012Y152B - 1.5K Ohm @ 100MHz, 500mA, 0.4 Ohm DC Resistance - Digikey: 445-1560-1-ND - Mainly for high frequency (80-400MHz)  MMZ2012R102A - 1K Ohm @ 100MHz, 500mA, 0.3 Ohm DC Resistance - Digikey: 445-1555-2-ND - More general purpose (10-200MHz)
footprint _0402
pins: 1 P$1, 2 P$2

## FERRITE_0402MP
designator FB?, comment Ferrite Bead   0603 MMZ1608B121C - 120 Ohm @ 100MHz, 600mA, 0.15 Ohm DC Resistance - Digikey: 445-2164-1-ND  BK1608HW121-T - 120 Ohm, 600mA Ferrite Chip - Digikey: 587-1876-2-ND       0805 HZ0805B272R-10 - 2.7K Ohm @ 100MHz, 200mA, 0.8 Ohm DC Resistance - Digikey: 240-2504-1-ND (see also Murata BLM21BD272SN1L)  MMZ2012Y152B - 1.5K Ohm @ 100MHz, 500mA, 0.4 Ohm DC Resistance - Digikey: 445-1560-1-ND - Mainly for high frequency (80-400MHz)  MMZ2012R102A - 1K Ohm @ 100MHz, 500mA, 0.3 Ohm DC Resistance - Digikey: 445-1555-2-ND - More general purpose (10-200MHz)
footprint _0402MP
pins: 1 P$1, 2 P$2

## FERRITE_0603
designator FB?, comment Ferrite Bead   0603 MMZ1608B121C - 120 Ohm @ 100MHz, 600mA, 0.15 Ohm DC Resistance - Digikey: 445-2164-1-ND  BK1608HW121-T - 120 Ohm, 600mA Ferrite Chip - Digikey: 587-1876-2-ND       0805 HZ0805B272R-10 - 2.7K Ohm @ 100MHz, 200mA, 0.8 Ohm DC Resistance - Digikey: 240-2504-1-ND (see also Murata BLM21BD272SN1L)  MMZ2012Y152B - 1.5K Ohm @ 100MHz, 500mA, 0.4 Ohm DC Resistance - Digikey: 445-1560-1-ND - Mainly for high frequency (80-400MHz)  MMZ2012R102A - 1K Ohm @ 100MHz, 500mA, 0.3 Ohm DC Resistance - Digikey: 445-1555-2-ND - More general purpose (10-200MHz)
footprint _0603
pins: 1 P$1, 2 P$2

## FERRITE_0603MP
designator FB?, comment Ferrite Bead   0603 MMZ1608B121C - 120 Ohm @ 100MHz, 600mA, 0.15 Ohm DC Resistance - Digikey: 445-2164-1-ND  BK1608HW121-T - 120 Ohm, 600mA Ferrite Chip - Digikey: 587-1876-2-ND       0805 HZ0805B272R-10 - 2.7K Ohm @ 100MHz, 200mA, 0.8 Ohm DC Resistance - Digikey: 240-2504-1-ND (see also Murata BLM21BD272SN1L)  MMZ2012Y152B - 1.5K Ohm @ 100MHz, 500mA, 0.4 Ohm DC Resistance - Digikey: 445-1560-1-ND - Mainly for high frequency (80-400MHz)  MMZ2012R102A - 1K Ohm @ 100MHz, 500mA, 0.3 Ohm DC Resistance - Digikey: 445-1555-2-ND - More general purpose (10-200MHz)
footprint _0603MP
pins: 1 P$1, 2 P$2

## FERRITE_0805
designator FB?, comment Ferrite Bead   0603 MMZ1608B121C - 120 Ohm @ 100MHz, 600mA, 0.15 Ohm DC Resistance - Digikey: 445-2164-1-ND  BK1608HW121-T - 120 Ohm, 600mA Ferrite Chip - Digikey: 587-1876-2-ND       0805 HZ0805B272R-10 - 2.7K Ohm @ 100MHz, 200mA, 0.8 Ohm DC Resistance - Digikey: 240-2504-1-ND (see also Murata BLM21BD272SN1L)  MMZ2012Y152B - 1.5K Ohm @ 100MHz, 500mA, 0.4 Ohm DC Resistance - Digikey: 445-1560-1-ND - Mainly for high frequency (80-400MHz)  MMZ2012R102A - 1K Ohm @ 100MHz, 500mA, 0.3 Ohm DC Resistance - Digikey: 445-1555-2-ND - More general purpose (10-200MHz)
footprint _0805
pins: 1 P$1, 2 P$2

## FERRITE_0805MP
designator FB?, comment Ferrite Bead   0603 MMZ1608B121C - 120 Ohm @ 100MHz, 600mA, 0.15 Ohm DC Resistance - Digikey: 445-2164-1-ND  BK1608HW121-T - 120 Ohm, 600mA Ferrite Chip - Digikey: 587-1876-2-ND       0805 HZ0805B272R-10 - 2.7K Ohm @ 100MHz, 200mA, 0.8 Ohm DC Resistance - Digikey: 240-2504-1-ND (see also Murata BLM21BD272SN1L)  MMZ2012Y152B - 1.5K Ohm @ 100MHz, 500mA, 0.4 Ohm DC Resistance - Digikey: 445-1560-1-ND - Mainly for high frequency (80-400MHz)  MMZ2012R102A - 1K Ohm @ 100MHz, 500mA, 0.3 Ohm DC Resistance - Digikey: 445-1555-2-ND - More general purpose (10-200MHz)
footprint _0805MP
pins: 1 P$1, 2 P$2

## FIDUCIAL1X2.5
designator FID?, comment Fiducial Alignment Points   Various fiducial points for machine vision alignment.
BOM: EXCLUDE
footprint FIDUCIAL-1X2.5

## FIDUCIAL""
designator FID?, comment Fiducial Alignment Points   Various fiducial points for machine vision alignment.
footprint FIDUCIAL_1MM

## FIDUCIALROUND
designator FID?, comment Fiducial Alignment Points   Various fiducial points for machine vision alignment.
footprint PASS-ROUND

## FPC45
designator CON?, comment FPC Connector - 45 Pin 0.5mm Bottom Contacts   Digikey: 609-1196-1-ND
footprint FPC45PIN
pins: P$1, P$2, P$3, P$4, P$5, P$6, P$7, P$8, P$9, P$10, P$11, P$12, P$13, P$14, P$15, P$16, P$17, P$18, P$19, P$20, P$21, P$22, P$23, P$24, P$25, P$26, P$27, P$28, P$29, P$30, P$31, P$32, P$33, P$34, P$35, P$36, P$37, P$38, P$39, P$40, P$41, P$42, P$43, P$44, P$45

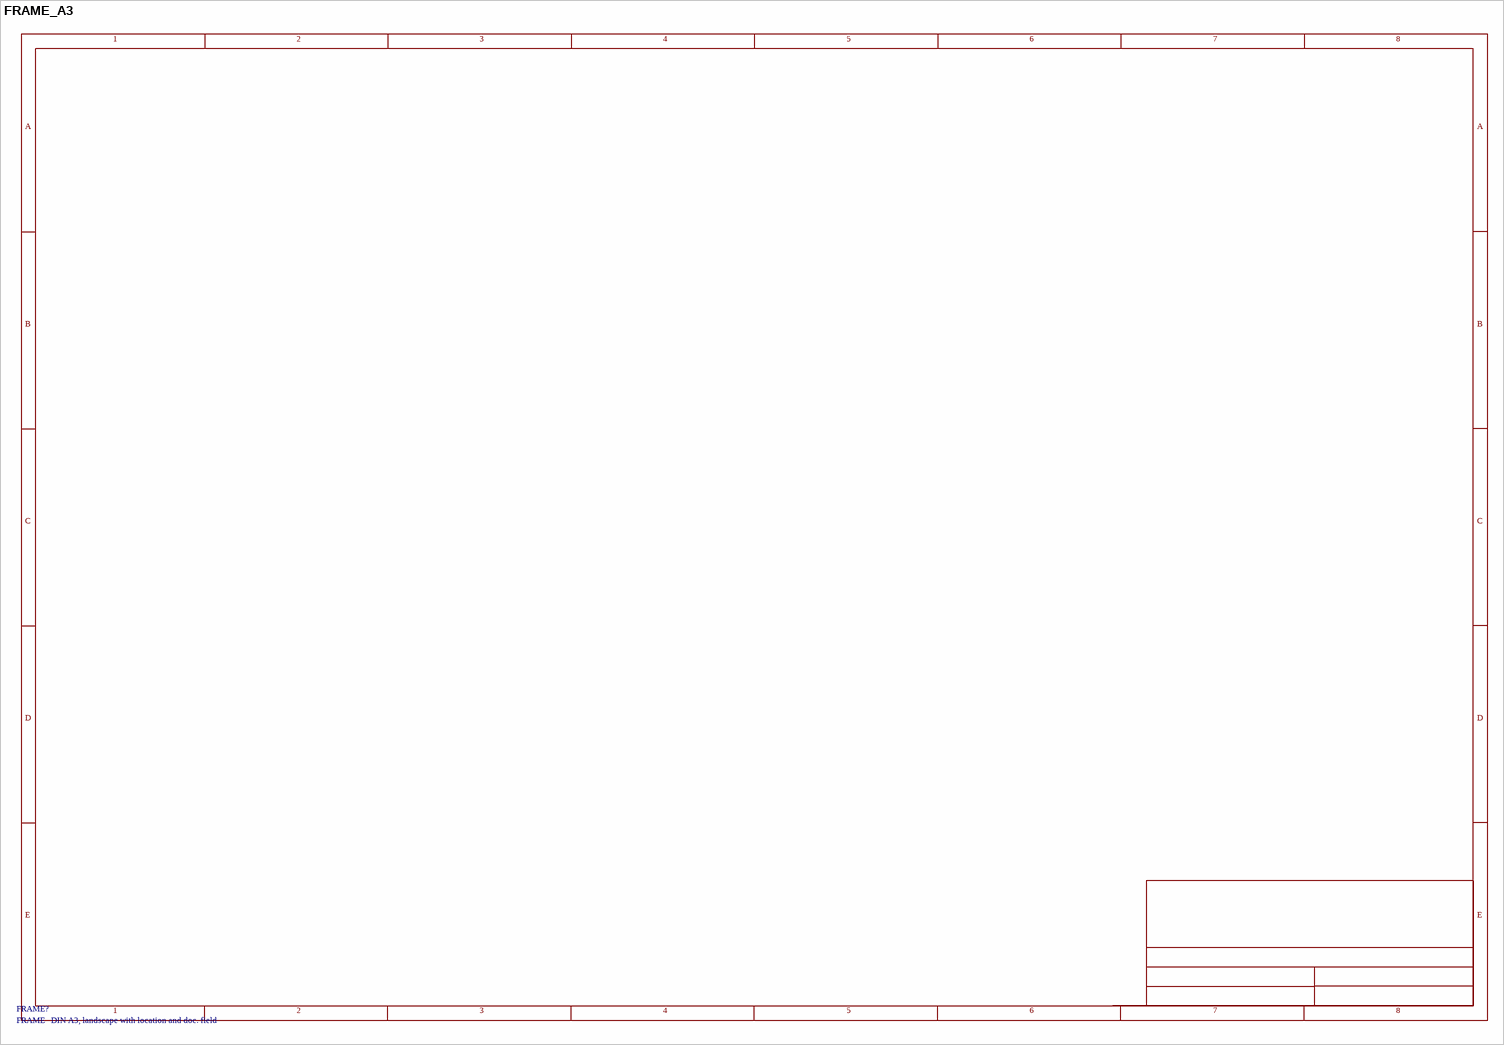
[diagram p14: symbol FRAME_A3]

## FRAME_A3
designator FRAME?, comment FRAME   DIN A3, landscape with location and doc. field
text: 1; 2; 3; 4; 5; 6; 7; 8; A; B; C; D; E

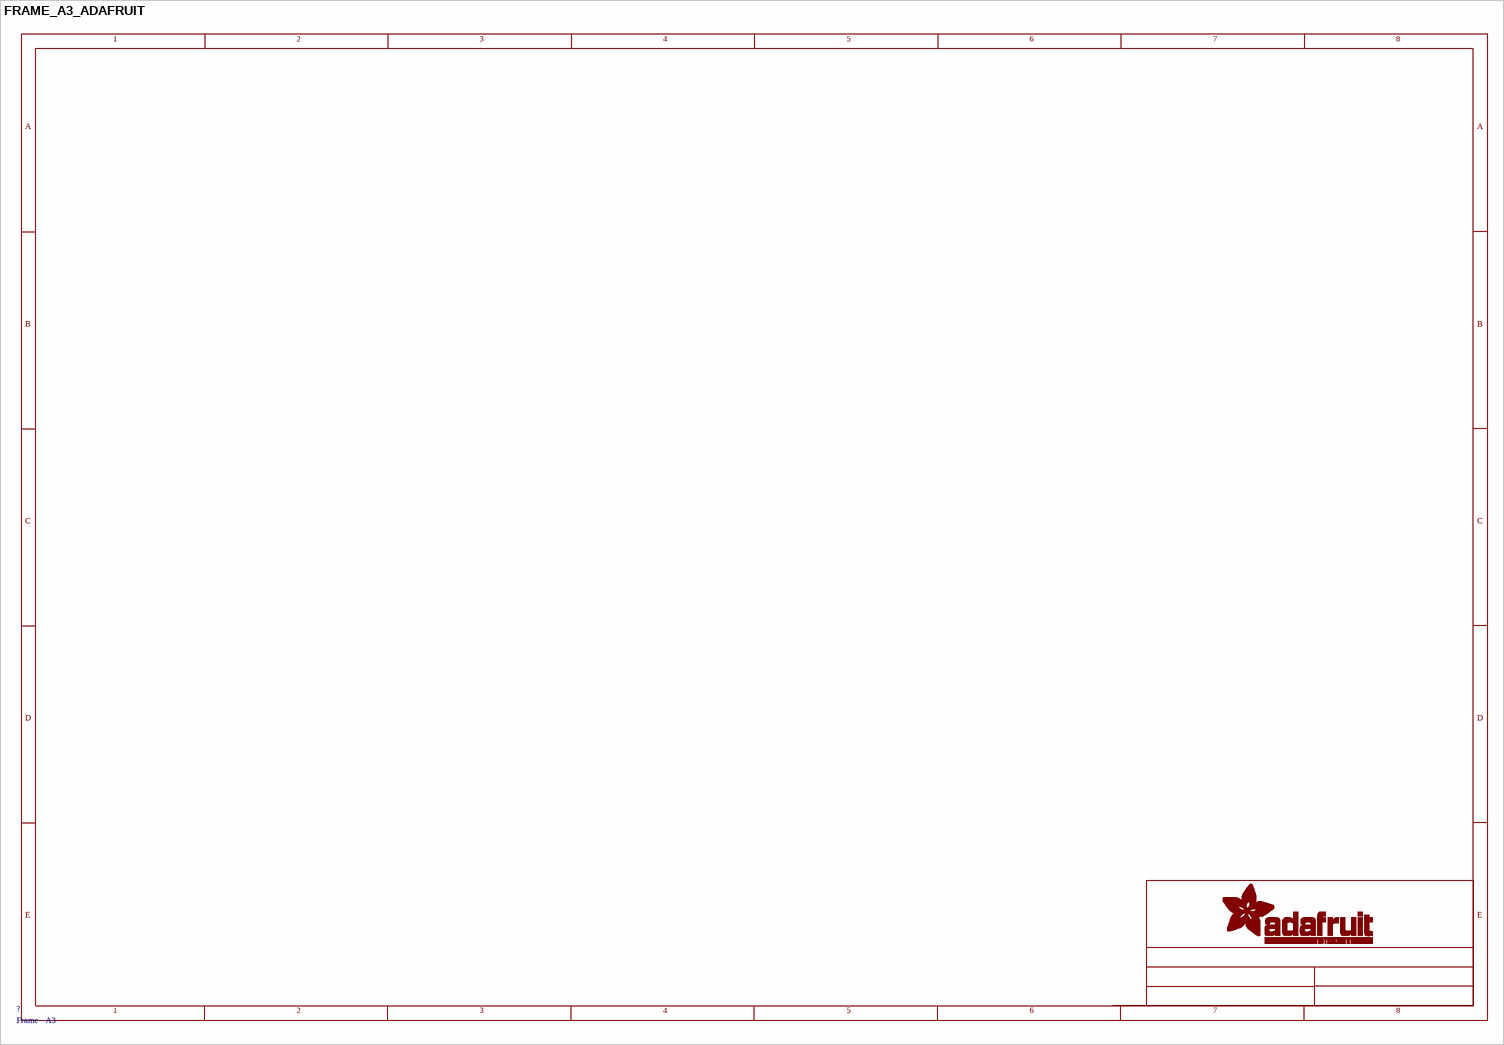
[diagram p15: symbol FRAME_A3_ADAFRUIT]

## FRAME_A3_ADAFRUIT
designator ?, comment Frame - A3
text: 1; 2; 3; 4; 5; 6; 7; 8; A; B; C; D; E

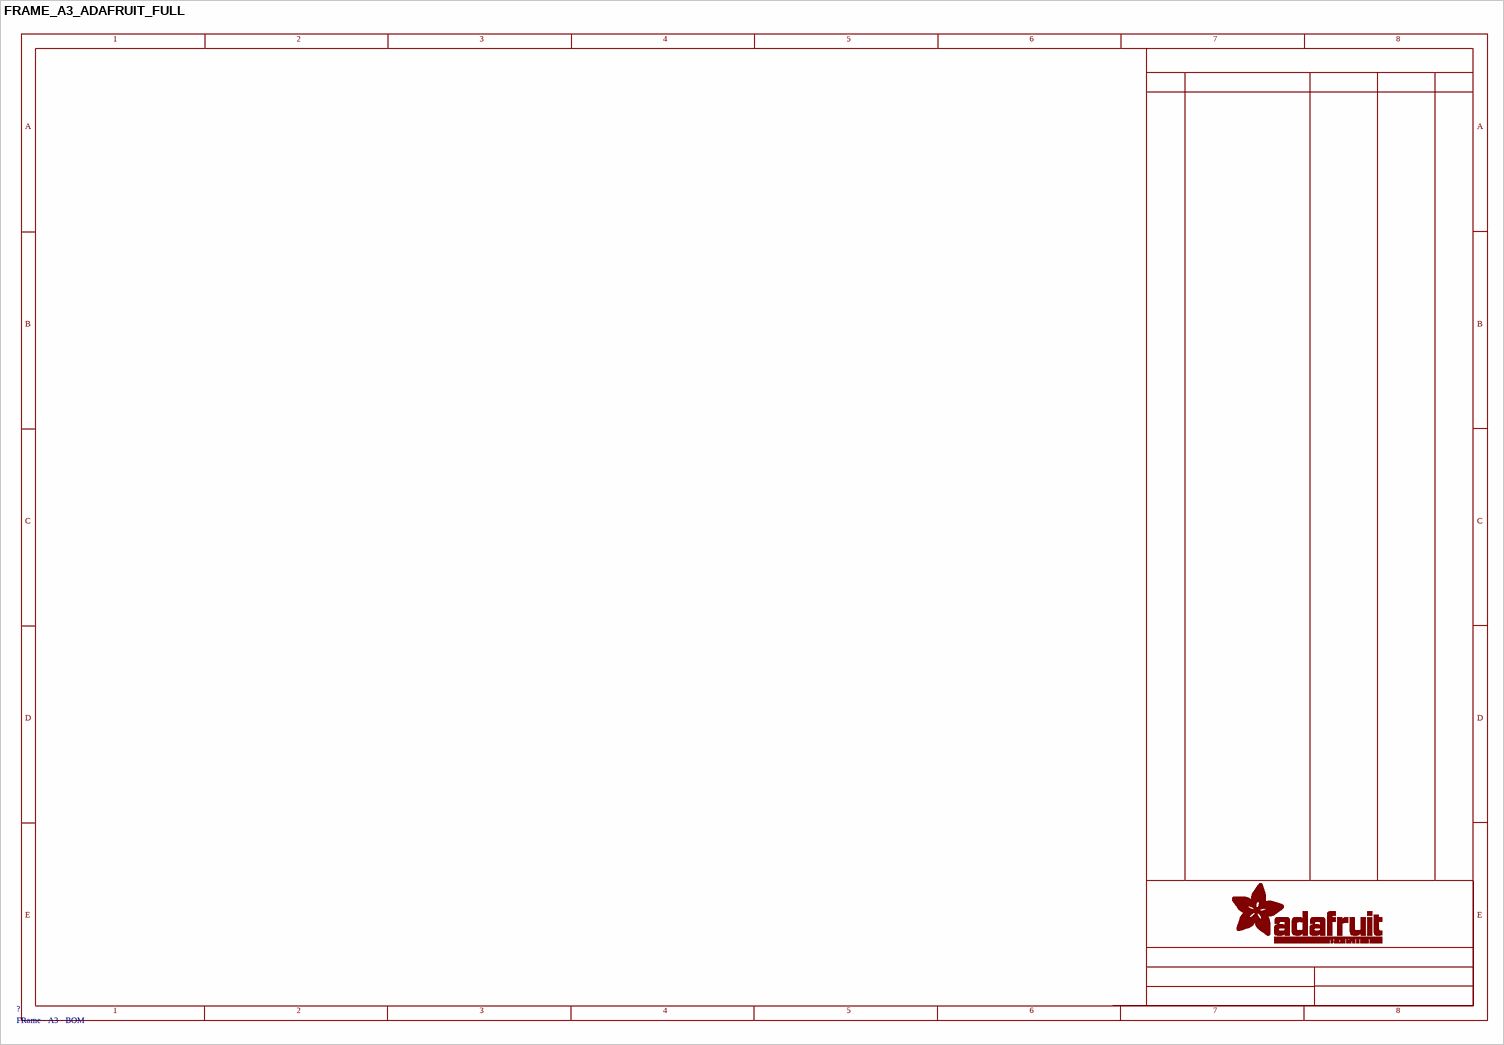
[diagram p16: symbol FRAME_A3_ADAFRUIT_FULL]

## FRAME_A3_ADAFRUIT_FULL
designator ?, comment FRame - A3 - BOM
text: 1; 2; 3; 4; 5; 6; 7; 8; A; B; C; D; E

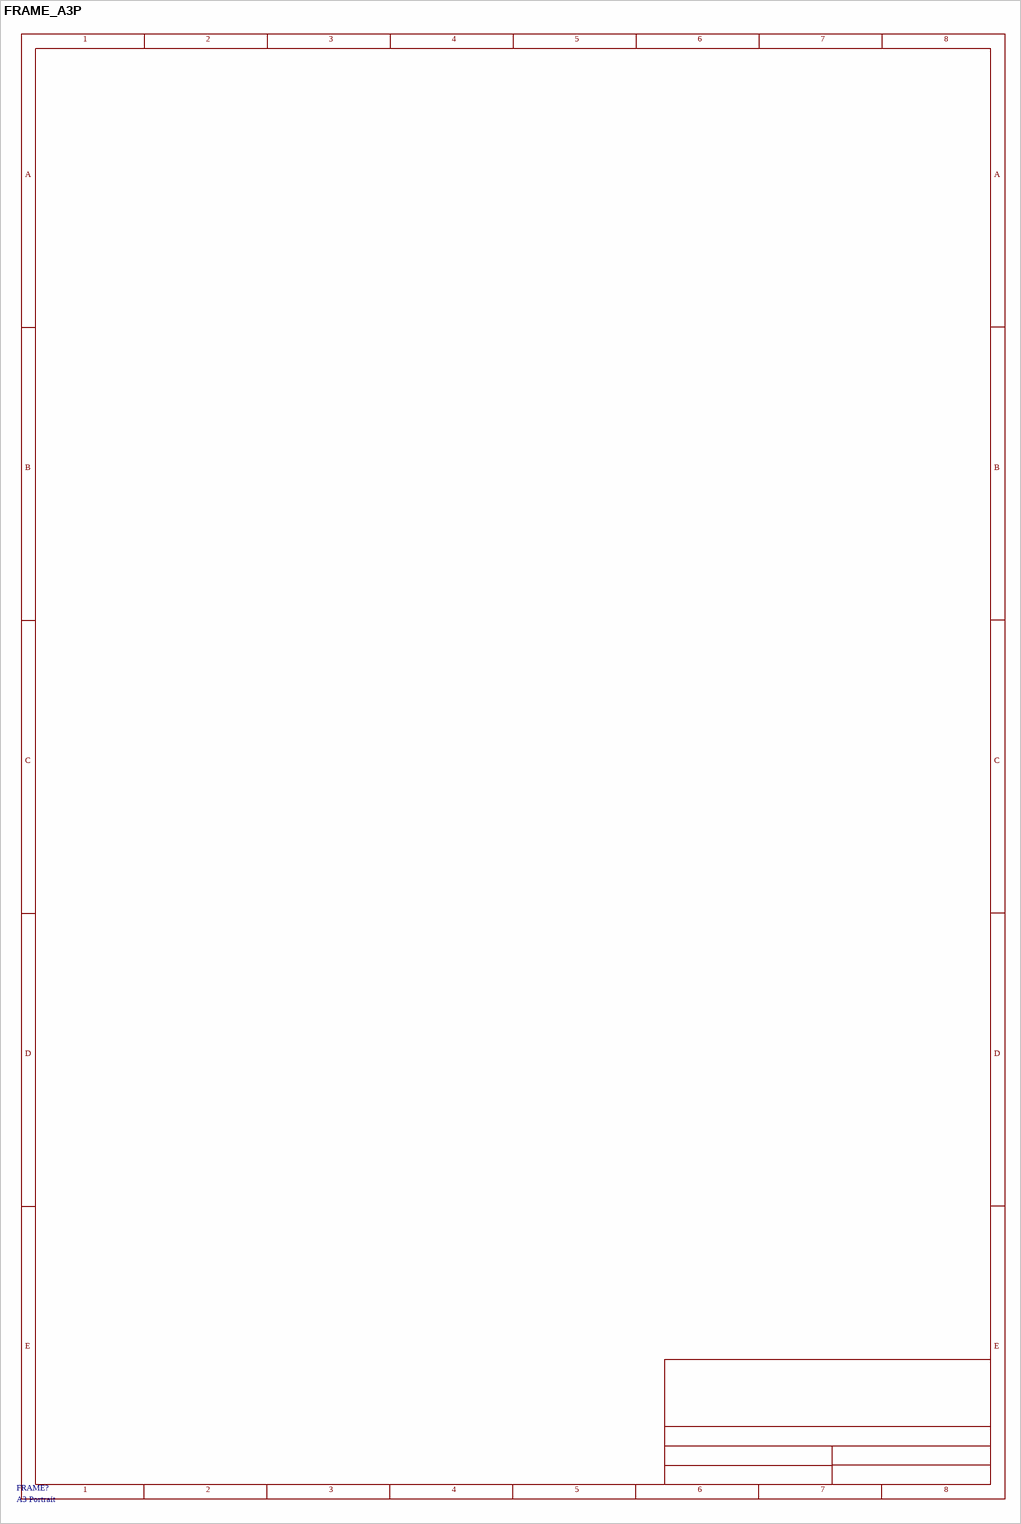
[diagram p17: symbol FRAME_A3P]

## FRAME_A3P
designator FRAME?, comment A3 Portrait
text: 1; 2; 3; 4; 5; 6; 7; 8; A; B; C; D; E

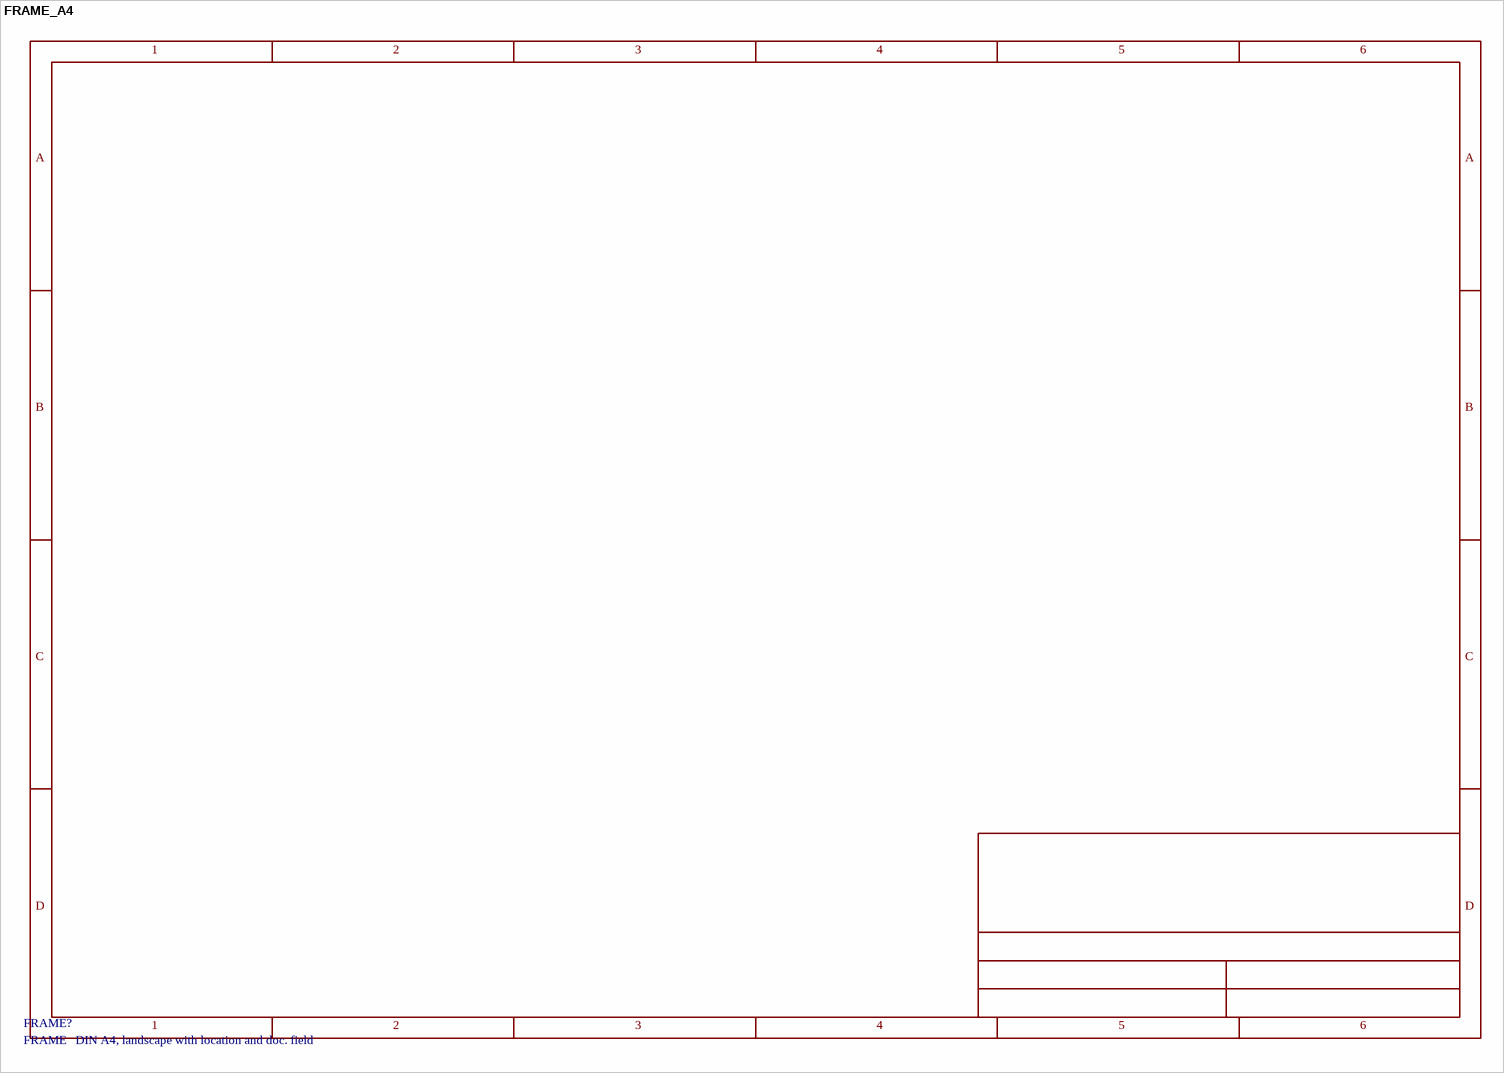
[diagram p18: symbol FRAME_A4]

## FRAME_A4
designator FRAME?, comment FRAME   DIN A4, landscape with location and doc. field
text: 1; 2; 3; 4; 5; 6; A; B; C; D

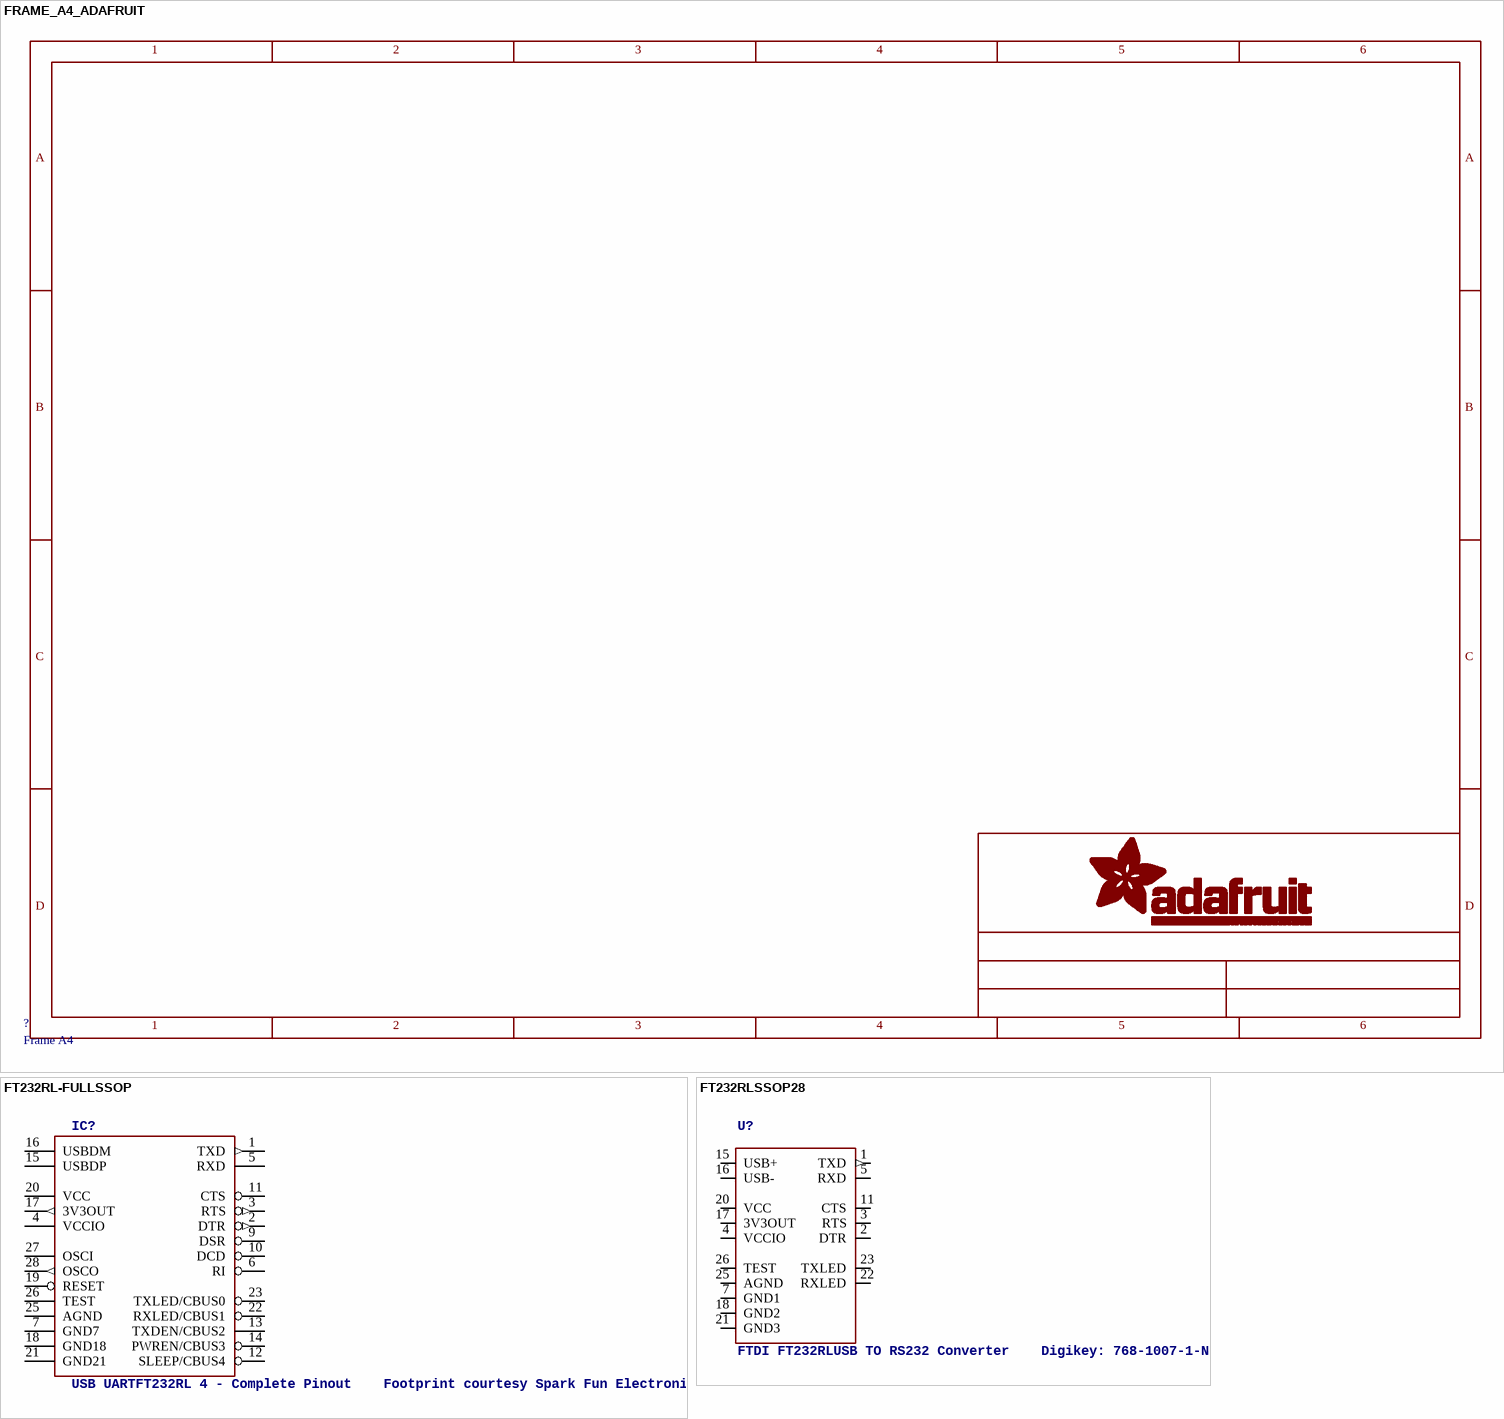
[diagram p19: symbols FRAME_A4_ADAFRUIT to FT232RLSSOP28]

## FRAME_A4_ADAFRUIT
designator ?, comment Frame A4
text: 1; 2; 3; 4; 5; 6; A; B; C; D

## FT232RL-FULLSSOP
designator IC?, comment USB UARTFT232RL 4 - Complete Pinout    Footprint courtesy Spark Fun Electronics
footprint SSOP28DB
pins: 1 TXD (out), 2 DTR (out), 3 RTS (out), 4 VCCIO (power), 5 RXD, 6 RI, 7 GND7 (power), 9 DSR, 10 DCD, 11 CTS, 12 SLEEP/CBUS4, 13 TXDEN/CBUS2, 14 PWREN/CBUS3, 15 USBDP, 16 USBDM, 17 3V3OUT (out), 18 GND18 (power), 19 RESET, 20 VCC (power), 21 GND21 (power), 22 RXLED/CBUS1, 23 TXLED/CBUS0, 25 AGND (power), 26 TEST, 27 OSCI, 28 OSCO (out)

## FT232RLSSOP28
designator U?, comment FTDI FT232RLUSB TO RS232 Converter    Digikey: 768-1007-1-ND
footprint SSOP28DB
pins: 1 TXD (out), 2 DTR, 3 RTS, 4 VCCIO (power), 5 RXD, 7 GND1 (power), 11 CTS, 15 USB+, 16 USB-, 17 3V3OUT (power), 18 GND2 (power), 20 VCC (power), 21 GND3 (power), 22 RXLED, 23 TXLED, 25 AGND (power), 26 TEST

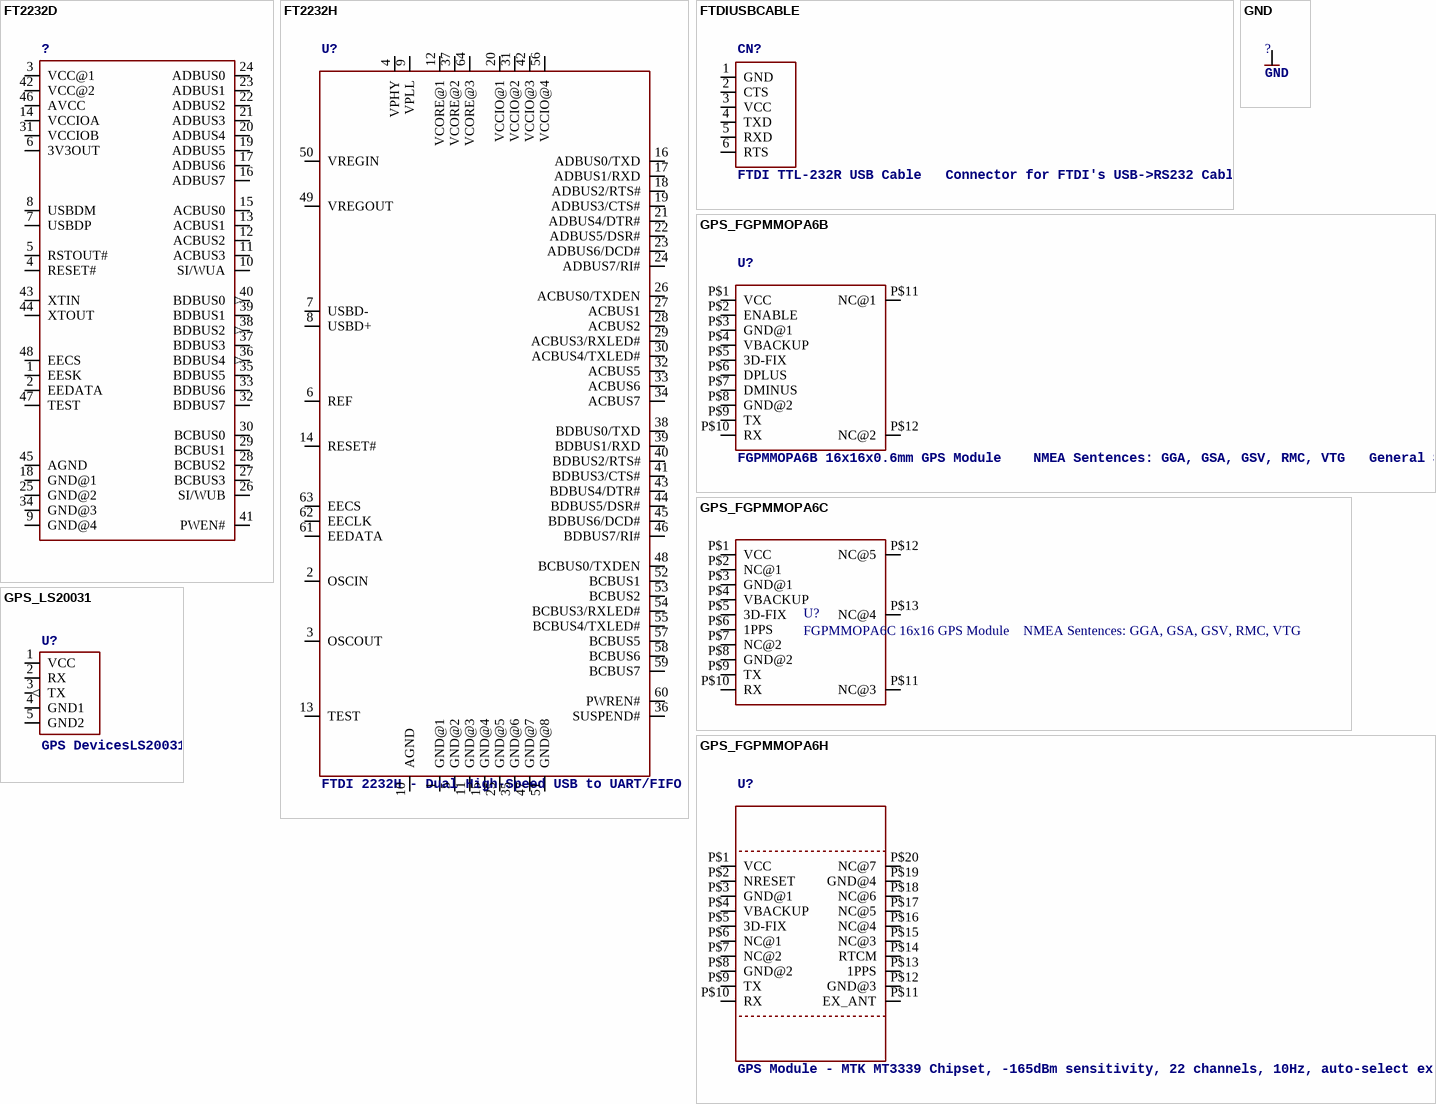
[diagram p20: symbols FT2232D to GPS_LS20031]

## FT2232D
designator ?
footprint LQFP48
pins: 1 EESK, 2 EEDATA, 3 VCC@1 (power), 4 RESET#, 5 RSTOUT#, 6 3V3OUT (power), 7 USBDP, 8 USBDM, 9 GND@4 (power), 10 SI/WUA, 11 ACBUS3, 12 ACBUS2, 13 ACBUS1, 14 VCCIOA (power), 15 ACBUS0, 16 ADBUS7, 17 ADBUS6, 18 GND@1 (power), 19 ADBUS5, 20 ADBUS4, 21 ADBUS3, 22 ADBUS2, 23 ADBUS1, 24 ADBUS0, 25 GND@2 (power), 26 SI/WUB, 27 BCBUS3, 28 BCBUS2, 29 BCBUS1, 30 BCBUS0, 31 VCCIOB (power), 32 BDBUS7, 33 BDBUS6, 34 GND@3 (power), 35 BDBUS5, 36 BDBUS4 (out), 37 BDBUS3, 38 BDBUS2 (out), 39 BDBUS1, 40 BDBUS0 (out), 41 PWEN#, 42 VCC@2 (power), 43 XTIN, 44 XTOUT, 45 AGND (power), 46 AVCC (power), 47 TEST, 48 EECS